# Altium schematic symbol library TI Microcontroller 32-Bit ARM.SchLib: 163 symbols (part 7 of 10)
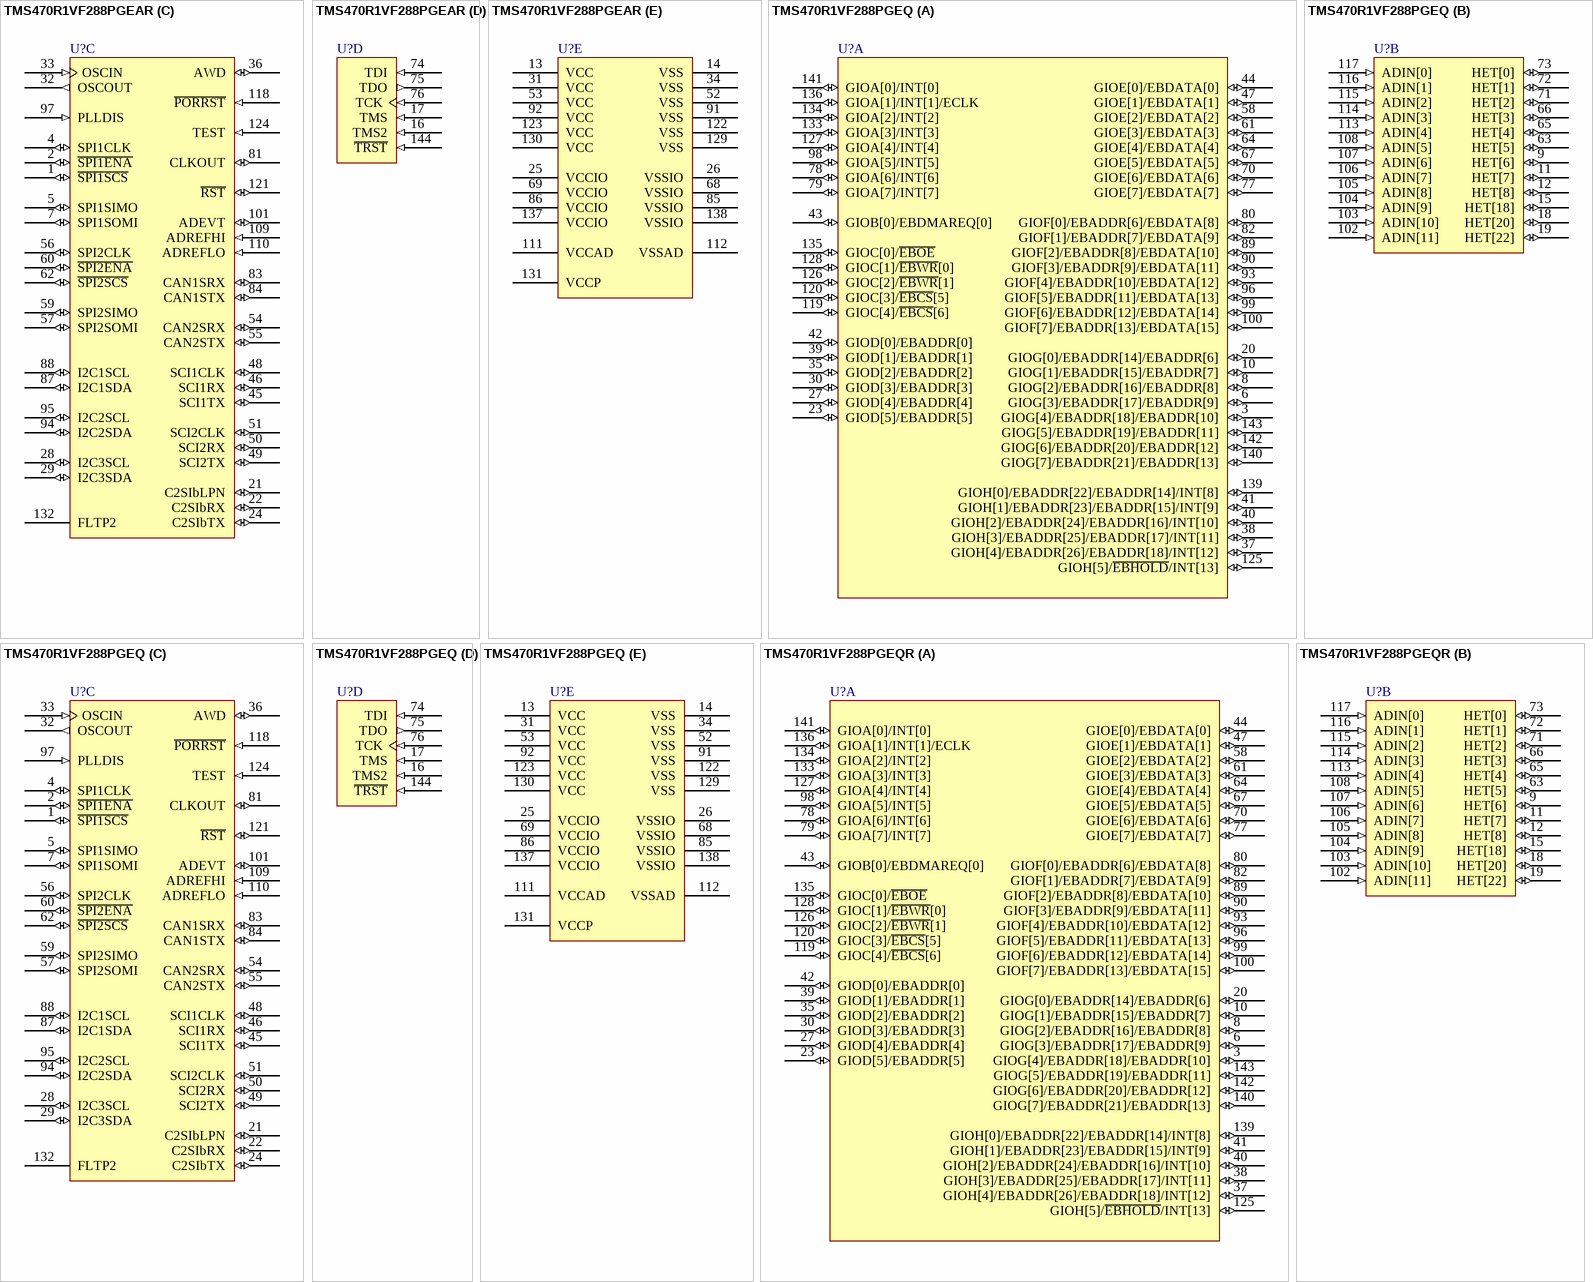
[diagram p58: symbols TMS470R1VF288PGEAR to TMS470R1VF288PGEQR]

## TMS470R1VF288PGEQ
designator U?
ARM7TDMI 16/32-Bit RISC Automotive MCU, 288KB Flash, 16KB RAM, 144-pin LQFP, -40ºC to 125ºC; Published: 30-Mar-2007; DatasheetVersion: Dec-2005; PackageVersion: Dec-1996; PackageReference: PGE144; Publisher: Altium Limited; PackageDescription: 144-Pin Thin Quad Flat Pack 0.5 mm Pitch; ComponentLink1Description: Manufacturer Link; ComponentLink1URL: http://www.ti.com/; ComponentLink2Description: Datasheet; ComponentLink2URL: http://focus.ti.com/lit/ds/symlink/tms470r1vf288.pdf
footprint PGE144_N (Thin QFP, 144-Leads, Body 20x20mm, Pitch 0.5mm, IPC Medium Density)
footprint PGE144_L (Thin QFP, 144-Leads, Body 20x20mm, Pitch 0.5mm, IPC High Density)
footprint PGE144_M (Thin QFP, 144-Leads, Body 20x20mm, Pitch 0.5mm, IPC Low Density)
part A pins: 3 GIOG[4]/EBADDR[18]/EBADDR[10] (io), 6 GIOG[3]/EBADDR[17]/EBADDR[9] (io), 8 GIOG[2]/EBADDR[16]/EBADDR[8] (io), 10 GIOG[1]/EBADDR[15]/EBADDR[7] (io), 20 GIOG[0]/EBADDR[14]/EBADDR[6] (io), 23 GIOD[5]/EBADDR[5] (io), 27 GIOD[4]/EBADDR[4] (io), 30 GIOD[3]/EBADDR[3] (io), 35 GIOD[2]/EBADDR[2] (io), 37 GIOH[4]/EBADDR[26]/EBADDR[18]/INT[12] (io), 38 GIOH[3]/EBADDR[25]/EBADDR[17]/INT[11] (io), 39 GIOD[1]/EBADDR[1] (io), 40 GIOH[2]/EBADDR[24]/EBADDR[16]/INT[10] (io), 41 GIOH[1]/EBADDR[23]/EBADDR[15]/INT[9] (io), 42 GIOD[0]/EBADDR[0] (io), 43 GIOB[0]/EBDMAREQ[0] (io), 44 GIOE[0]/EBDATA[0] (io), 47 GIOE[1]/EBDATA[1] (io), 58 GIOE[2]/EBDATA[2] (io), 61 GIOE[3]/EBDATA[3] (io), 64 GIOE[4]/EBDATA[4] (io), 67 GIOE[5]/EBDATA[5] (io), 70 GIOE[6]/EBDATA[6] (io), 77 GIOE[7]/EBDATA[7] (io), 78 GIOA[6]/INT[6] (io), 79 GIOA[7]/INT[7] (io), 80 GIOF[0]/EBADDR[6]/EBDATA[8] (io), 82 GIOF[1]/EBADDR[7]/EBDATA[9] (io), 89 GIOF[2]/EBADDR[8]/EBDATA[10] (io), 90 GIOF[3]/EBADDR[9]/EBDATA[11] (io), 93 GIOF[4]/EBADDR[10]/EBDATA[12] (io), 96 GIOF[5]/EBADDR[11]/EBDATA[13] (io), 98 GIOA[5]/INT[5] (io), 99 GIOF[6]/EBADDR[12]/EBDATA[14] (io), 100 GIOF[7]/EBADDR[13]/EBDATA[15] (io), 119 GIOC[4]/~{EBCS}[6] (io), 120 GIOC[3]/~{EBCS}[5] (io), 125 GIOH[5]/~{EBHOLD}/INT[13] (io), 126 GIOC[2]/~{EBWR}[1] (io), 127 GIOA[4]/INT[4] (io), 128 GIOC[1]/~{EBWR}[0] (io), 133 GIOA[3]/INT[3] (io), 134 GIOA[2]/INT[2] (io), 135 GIOC[0]/~{EBOE} (io), 136 GIOA[1]/INT[1]/ECLK (io), 139 GIOH[0]/EBADDR[22]/EBADDR[14]/INT[8] (io), 140 GIOG[7]/EBADDR[21]/EBADDR[13] (io), 141 GIOA[0]/INT[0] (io), 142 GIOG[6]/EBADDR[20]/EBADDR[12] (io), 143 GIOG[5]/EBADDR[19]/EBADDR[11] (io)
part B pins: 9 HET[6] (io), 11 HET[7] (io), 12 HET[8] (io), 15 HET[18] (io), 18 HET[20] (io), 19 HET[22] (io), 63 HET[5] (io), 65 HET[4] (io), 66 HET[3] (io), 71 HET[2] (io), 72 HET[1] (io), 73 HET[0] (io), 102 ADIN[11] (in), 103 ADIN[10] (in), 104 ADIN[9] (in), 105 ADIN[8] (in), 106 ADIN[7] (in), 107 ADIN[6] (in), 108 ADIN[5] (in), 113 ADIN[4] (in), 114 ADIN[3] (in), 115 ADIN[2] (in), 116 ADIN[1] (in), 117 ADIN[0] (in)
part C pins: 1 ~{SPI1SCS} (io), 2 ~{SPI1ENA} (io), 4 SPI1CLK (io), 5 SPI1SIMO (io), 7 SPI1SOMI (io), 21 C2SIbLPN (io), 22 C2SIbRX (io), 24 C2SIbTX (io), 28 I2C3SCL (io), 29 I2C3SDA (io), 32 OSCOUT (out), 33 OSCIN (in), 36 AWD (io), 45 SCI1TX (io), 46 SCI1RX (io), 48 SCI1CLK (io), 49 SCI2TX (io), 50 SCI2RX (io), 51 SCI2CLK (io), 54 CAN2SRX (io), 55 CAN2STX (io), 56 SPI2CLK (io), 57 SPI2SOMI (io), 59 SPI2SIMO (io), 60 ~{SPI2ENA} (io), 62 ~{SPI2SCS} (io), 81 CLKOUT (io), 83 CAN1SRX (io), 84 CAN1STX (io), 87 I2C1SDA (io), 88 I2C1SCL (io), 94 I2C2SDA (io), 95 I2C2SCL (io), 97 PLLDIS (in), 101 ADEVT (io), 109 ADREFHI (in), 110 ADREFLO (in), 118 ~{PORRST} (in), 121 ~{RST} (io), 124 TEST (in), 132 FLTP2
part D pins: 16 TMS2 (in), 17 TMS (in), 74 TDI (in), 75 TDO (out), 76 TCK (in), 144 ~{TRST} (in)
part E pins: 13 VCC (power), 14 VSS (power), 25 VCCIO (power), 26 VSSIO (power), 31 VCC (power), 34 VSS (power), 52 VSS (power), 53 VCC (power), 68 VSSIO (power), 69 VCCIO (power), 85 VSSIO (power), 86 VCCIO (power), 91 VSS (power), 92 VCC (power), 111 VCCAD (power), 112 VSSAD (power), 122 VSS (power), 123 VCC (power), 129 VSS (power), 130 VCC (power), 131 VCCP (power), 137 VCCIO (power), 138 VSSIO (power)

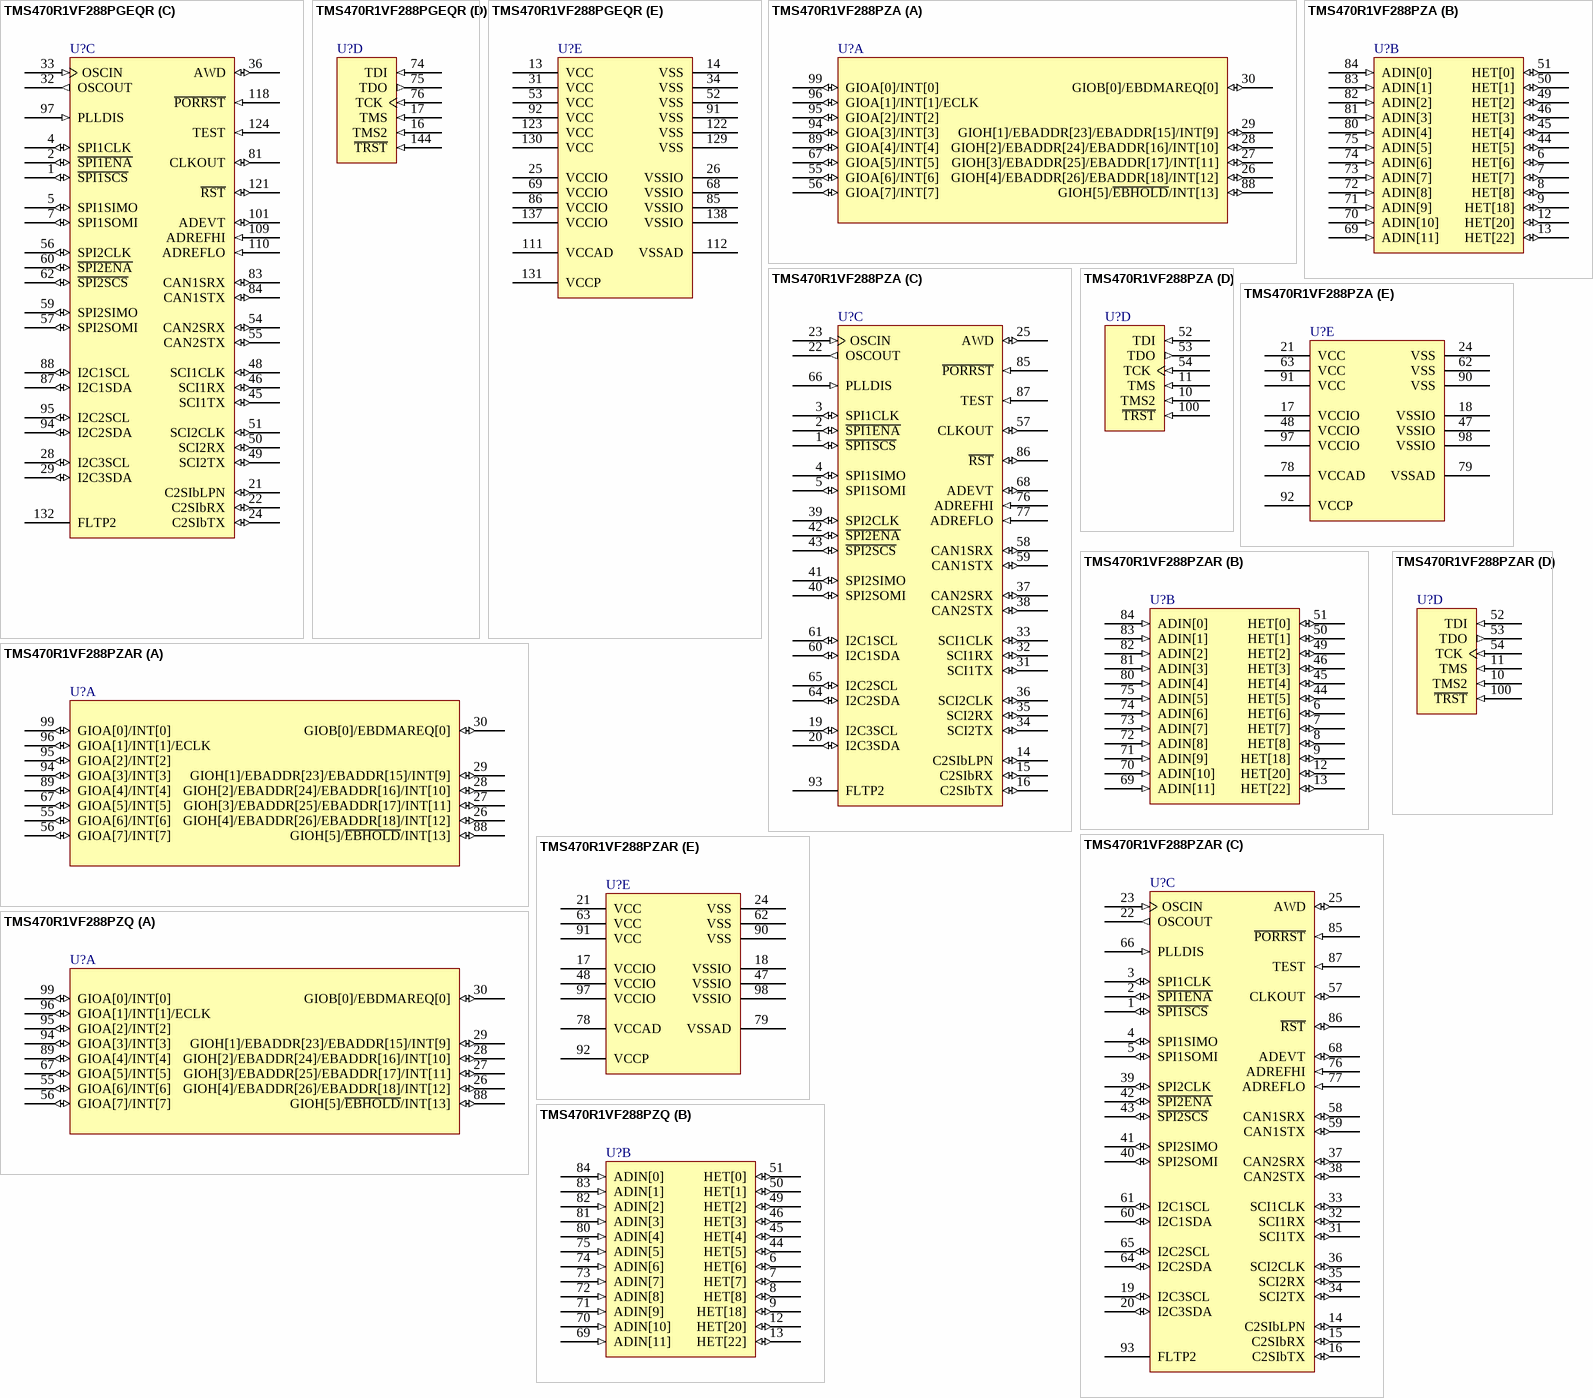
[diagram p33: symbols TMS470R1VF288PGEQR to TMS470R1VF288PZQ]

## TMS470R1VF288PGEQR
designator U?
ARM7TDMI 16/32-Bit RISC Automotive MCU, 288KB Flash, 16KB RAM, 144-pin LQFP, -40ºC to 125ºC; Published: 30-Mar-2007; DatasheetVersion: Dec-2005; PackageVersion: Dec-1996; PackageReference: PGE144; Publisher: Altium Limited; PackageDescription: 144-Pin Thin Quad Flat Pack 0.5 mm Pitch; ComponentLink1Description: Manufacturer Link; ComponentLink1URL: http://www.ti.com/; ComponentLink2Description: Datasheet; ComponentLink2URL: http://focus.ti.com/lit/ds/symlink/tms470r1vf288.pdf
footprint PGE144_N (Thin QFP, 144-Leads, Body 20x20mm, Pitch 0.5mm, IPC Medium Density)
footprint PGE144_L (Thin QFP, 144-Leads, Body 20x20mm, Pitch 0.5mm, IPC High Density)
footprint PGE144_M (Thin QFP, 144-Leads, Body 20x20mm, Pitch 0.5mm, IPC Low Density)
part A pins: 3 GIOG[4]/EBADDR[18]/EBADDR[10] (io), 6 GIOG[3]/EBADDR[17]/EBADDR[9] (io), 8 GIOG[2]/EBADDR[16]/EBADDR[8] (io), 10 GIOG[1]/EBADDR[15]/EBADDR[7] (io), 20 GIOG[0]/EBADDR[14]/EBADDR[6] (io), 23 GIOD[5]/EBADDR[5] (io), 27 GIOD[4]/EBADDR[4] (io), 30 GIOD[3]/EBADDR[3] (io), 35 GIOD[2]/EBADDR[2] (io), 37 GIOH[4]/EBADDR[26]/EBADDR[18]/INT[12] (io), 38 GIOH[3]/EBADDR[25]/EBADDR[17]/INT[11] (io), 39 GIOD[1]/EBADDR[1] (io), 40 GIOH[2]/EBADDR[24]/EBADDR[16]/INT[10] (io), 41 GIOH[1]/EBADDR[23]/EBADDR[15]/INT[9] (io), 42 GIOD[0]/EBADDR[0] (io), 43 GIOB[0]/EBDMAREQ[0] (io), 44 GIOE[0]/EBDATA[0] (io), 47 GIOE[1]/EBDATA[1] (io), 58 GIOE[2]/EBDATA[2] (io), 61 GIOE[3]/EBDATA[3] (io), 64 GIOE[4]/EBDATA[4] (io), 67 GIOE[5]/EBDATA[5] (io), 70 GIOE[6]/EBDATA[6] (io), 77 GIOE[7]/EBDATA[7] (io), 78 GIOA[6]/INT[6] (io), 79 GIOA[7]/INT[7] (io), 80 GIOF[0]/EBADDR[6]/EBDATA[8] (io), 82 GIOF[1]/EBADDR[7]/EBDATA[9] (io), 89 GIOF[2]/EBADDR[8]/EBDATA[10] (io), 90 GIOF[3]/EBADDR[9]/EBDATA[11] (io), 93 GIOF[4]/EBADDR[10]/EBDATA[12] (io), 96 GIOF[5]/EBADDR[11]/EBDATA[13] (io), 98 GIOA[5]/INT[5] (io), 99 GIOF[6]/EBADDR[12]/EBDATA[14] (io), 100 GIOF[7]/EBADDR[13]/EBDATA[15] (io), 119 GIOC[4]/~{EBCS}[6] (io), 120 GIOC[3]/~{EBCS}[5] (io), 125 GIOH[5]/~{EBHOLD}/INT[13] (io), 126 GIOC[2]/~{EBWR}[1] (io), 127 GIOA[4]/INT[4] (io), 128 GIOC[1]/~{EBWR}[0] (io), 133 GIOA[3]/INT[3] (io), 134 GIOA[2]/INT[2] (io), 135 GIOC[0]/~{EBOE} (io), 136 GIOA[1]/INT[1]/ECLK (io), 139 GIOH[0]/EBADDR[22]/EBADDR[14]/INT[8] (io), 140 GIOG[7]/EBADDR[21]/EBADDR[13] (io), 141 GIOA[0]/INT[0] (io), 142 GIOG[6]/EBADDR[20]/EBADDR[12] (io), 143 GIOG[5]/EBADDR[19]/EBADDR[11] (io)
part B pins: 9 HET[6] (io), 11 HET[7] (io), 12 HET[8] (io), 15 HET[18] (io), 18 HET[20] (io), 19 HET[22] (io), 63 HET[5] (io), 65 HET[4] (io), 66 HET[3] (io), 71 HET[2] (io), 72 HET[1] (io), 73 HET[0] (io), 102 ADIN[11] (in), 103 ADIN[10] (in), 104 ADIN[9] (in), 105 ADIN[8] (in), 106 ADIN[7] (in), 107 ADIN[6] (in), 108 ADIN[5] (in), 113 ADIN[4] (in), 114 ADIN[3] (in), 115 ADIN[2] (in), 116 ADIN[1] (in), 117 ADIN[0] (in)
part C pins: 1 ~{SPI1SCS} (io), 2 ~{SPI1ENA} (io), 4 SPI1CLK (io), 5 SPI1SIMO (io), 7 SPI1SOMI (io), 21 C2SIbLPN (io), 22 C2SIbRX (io), 24 C2SIbTX (io), 28 I2C3SCL (io), 29 I2C3SDA (io), 32 OSCOUT (out), 33 OSCIN (in), 36 AWD (io), 45 SCI1TX (io), 46 SCI1RX (io), 48 SCI1CLK (io), 49 SCI2TX (io), 50 SCI2RX (io), 51 SCI2CLK (io), 54 CAN2SRX (io), 55 CAN2STX (io), 56 SPI2CLK (io), 57 SPI2SOMI (io), 59 SPI2SIMO (io), 60 ~{SPI2ENA} (io), 62 ~{SPI2SCS} (io), 81 CLKOUT (io), 83 CAN1SRX (io), 84 CAN1STX (io), 87 I2C1SDA (io), 88 I2C1SCL (io), 94 I2C2SDA (io), 95 I2C2SCL (io), 97 PLLDIS (in), 101 ADEVT (io), 109 ADREFHI (in), 110 ADREFLO (in), 118 ~{PORRST} (in), 121 ~{RST} (io), 124 TEST (in), 132 FLTP2
part D pins: 16 TMS2 (in), 17 TMS (in), 74 TDI (in), 75 TDO (out), 76 TCK (in), 144 ~{TRST} (in)
part E pins: 13 VCC (power), 14 VSS (power), 25 VCCIO (power), 26 VSSIO (power), 31 VCC (power), 34 VSS (power), 52 VSS (power), 53 VCC (power), 68 VSSIO (power), 69 VCCIO (power), 85 VSSIO (power), 86 VCCIO (power), 91 VSS (power), 92 VCC (power), 111 VCCAD (power), 112 VSSAD (power), 122 VSS (power), 123 VCC (power), 129 VSS (power), 130 VCC (power), 131 VCCP (power), 137 VCCIO (power), 138 VSSIO (power)

## TMS470R1VF288PZA
designator U?
ARM7TDMI 16/32-Bit RISC Automotive MCU, 288KB Flash, 16KB RAM, 100-pin LQFP, -40ºC to 85ºC; Published: 30-Mar-2007; DatasheetVersion: Dec-2005; PackageVersion: Dec-1996; PackageReference: PZ100; Publisher: Altium Limited; PackageDescription: 100-Pin Thin Quad Flat Pack 0.5 mm Pitch; ComponentLink1Description: Manufacturer Link; ComponentLink1URL: http://www.ti.com/; ComponentLink2Description: Datasheet; ComponentLink2URL: http://focus.ti.com/lit/ds/symlink/tms470r1vf288.pdf
footprint PZ100_N (Thin QFP, 100-Leads, Body 14x14mm, Pitch 0.5mm, IPC Medium Density)
footprint PZ100_L (Thin QFP, 100-Leads, Body 14x14mm, Pitch 0.5mm, IPC High Density)
footprint PZ100_M (Thin QFP, 100-Leads, Body 14x14mm, Pitch 0.5mm, IPC Low Density)
part A pins: 26 GIOH[4]/EBADDR[26]/EBADDR[18]/INT[12] (io), 27 GIOH[3]/EBADDR[25]/EBADDR[17]/INT[11] (io), 28 GIOH[2]/EBADDR[24]/EBADDR[16]/INT[10] (io), 29 GIOH[1]/EBADDR[23]/EBADDR[15]/INT[9] (io), 30 GIOB[0]/EBDMAREQ[0] (io), 55 GIOA[6]/INT[6] (io), 56 GIOA[7]/INT[7] (io), 67 GIOA[5]/INT[5] (io), 88 GIOH[5]/~{EBHOLD}/INT[13] (io), 89 GIOA[4]/INT[4] (io), 94 GIOA[3]/INT[3] (io), 95 GIOA[2]/INT[2] (io), 96 GIOA[1]/INT[1]/ECLK (io), 99 GIOA[0]/INT[0] (io)
part B pins: 6 HET[6] (io), 7 HET[7] (io), 8 HET[8] (io), 9 HET[18] (io), 12 HET[20] (io), 13 HET[22] (io), 44 HET[5] (io), 45 HET[4] (io), 46 HET[3] (io), 49 HET[2] (io), 50 HET[1] (io), 51 HET[0] (io), 69 ADIN[11] (in), 70 ADIN[10] (in), 71 ADIN[9] (in), 72 ADIN[8] (in), 73 ADIN[7] (in), 74 ADIN[6] (in), 75 ADIN[5] (in), 80 ADIN[4] (in), 81 ADIN[3] (in), 82 ADIN[2] (in), 83 ADIN[1] (in), 84 ADIN[0] (in)
part C pins: 1 ~{SPI1SCS} (io), 2 ~{SPI1ENA} (io), 3 SPI1CLK (io), 4 SPI1SIMO (io), 5 SPI1SOMI (io), 14 C2SIbLPN (io), 15 C2SIbRX (io), 16 C2SIbTX (io), 19 I2C3SCL (io), 20 I2C3SDA (io), 22 OSCOUT (out), 23 OSCIN (in), 25 AWD (io), 31 SCI1TX (io), 32 SCI1RX (io), 33 SCI1CLK (io), 34 SCI2TX (io), 35 SCI2RX (io), 36 SCI2CLK (io), 37 CAN2SRX (io), 38 CAN2STX (io), 39 SPI2CLK (io), 40 SPI2SOMI (io), 41 SPI2SIMO (io), 42 ~{SPI2ENA} (io), 43 ~{SPI2SCS} (io), 57 CLKOUT (io), 58 CAN1SRX (io), 59 CAN1STX (io), 60 I2C1SDA (io), 61 I2C1SCL (io), 64 I2C2SDA (io), 65 I2C2SCL (io), 66 PLLDIS (in), 68 ADEVT (io), 76 ADREFHI (in), 77 ADREFLO (in), 85 ~{PORRST} (in), 86 ~{RST} (io), 87 TEST (in), 93 FLTP2
part D pins: 10 TMS2 (in), 11 TMS (in), 52 TDI (in), 53 TDO (out), 54 TCK (in), 100 ~{TRST} (in)
part E pins: 17 VCCIO (power), 18 VSSIO (power), 21 VCC (power), 24 VSS (power), 47 VSSIO (power), 48 VCCIO (power), 62 VSS (power), 63 VCC (power), 78 VCCAD (power), 79 VSSAD (power), 90 VSS (power), 91 VCC (power), 92 VCCP (power), 97 VCCIO (power), 98 VSSIO (power)

## TMS470R1VF288PZAR
designator U?
ARM7TDMI 16/32-Bit RISC Automotive MCU, 288KB Flash, 16KB RAM, 100-pin LQFP, -40ºC to 85ºC; Published: 30-Mar-2007; DatasheetVersion: Dec-2005; PackageVersion: Dec-1996; PackageReference: PZ100; Publisher: Altium Limited; PackageDescription: 100-Pin Thin Quad Flat Pack 0.5 mm Pitch; ComponentLink1Description: Manufacturer Link; ComponentLink1URL: http://www.ti.com/; ComponentLink2Description: Datasheet; ComponentLink2URL: http://focus.ti.com/lit/ds/symlink/tms470r1vf288.pdf
footprint PZ100_N (Thin QFP, 100-Leads, Body 14x14mm, Pitch 0.5mm, IPC Medium Density)
footprint PZ100_L (Thin QFP, 100-Leads, Body 14x14mm, Pitch 0.5mm, IPC High Density)
footprint PZ100_M (Thin QFP, 100-Leads, Body 14x14mm, Pitch 0.5mm, IPC Low Density)
part A pins: 26 GIOH[4]/EBADDR[26]/EBADDR[18]/INT[12] (io), 27 GIOH[3]/EBADDR[25]/EBADDR[17]/INT[11] (io), 28 GIOH[2]/EBADDR[24]/EBADDR[16]/INT[10] (io), 29 GIOH[1]/EBADDR[23]/EBADDR[15]/INT[9] (io), 30 GIOB[0]/EBDMAREQ[0] (io), 55 GIOA[6]/INT[6] (io), 56 GIOA[7]/INT[7] (io), 67 GIOA[5]/INT[5] (io), 88 GIOH[5]/~{EBHOLD}/INT[13] (io), 89 GIOA[4]/INT[4] (io), 94 GIOA[3]/INT[3] (io), 95 GIOA[2]/INT[2] (io), 96 GIOA[1]/INT[1]/ECLK (io), 99 GIOA[0]/INT[0] (io)
part B pins: 6 HET[6] (io), 7 HET[7] (io), 8 HET[8] (io), 9 HET[18] (io), 12 HET[20] (io), 13 HET[22] (io), 44 HET[5] (io), 45 HET[4] (io), 46 HET[3] (io), 49 HET[2] (io), 50 HET[1] (io), 51 HET[0] (io), 69 ADIN[11] (in), 70 ADIN[10] (in), 71 ADIN[9] (in), 72 ADIN[8] (in), 73 ADIN[7] (in), 74 ADIN[6] (in), 75 ADIN[5] (in), 80 ADIN[4] (in), 81 ADIN[3] (in), 82 ADIN[2] (in), 83 ADIN[1] (in), 84 ADIN[0] (in)
part C pins: 1 ~{SPI1SCS} (io), 2 ~{SPI1ENA} (io), 3 SPI1CLK (io), 4 SPI1SIMO (io), 5 SPI1SOMI (io), 14 C2SIbLPN (io), 15 C2SIbRX (io), 16 C2SIbTX (io), 19 I2C3SCL (io), 20 I2C3SDA (io), 22 OSCOUT (out), 23 OSCIN (in), 25 AWD (io), 31 SCI1TX (io), 32 SCI1RX (io), 33 SCI1CLK (io), 34 SCI2TX (io), 35 SCI2RX (io), 36 SCI2CLK (io), 37 CAN2SRX (io), 38 CAN2STX (io), 39 SPI2CLK (io), 40 SPI2SOMI (io), 41 SPI2SIMO (io), 42 ~{SPI2ENA} (io), 43 ~{SPI2SCS} (io), 57 CLKOUT (io), 58 CAN1SRX (io), 59 CAN1STX (io), 60 I2C1SDA (io), 61 I2C1SCL (io), 64 I2C2SDA (io), 65 I2C2SCL (io), 66 PLLDIS (in), 68 ADEVT (io), 76 ADREFHI (in), 77 ADREFLO (in), 85 ~{PORRST} (in), 86 ~{RST} (io), 87 TEST (in), 93 FLTP2
part D pins: 10 TMS2 (in), 11 TMS (in), 52 TDI (in), 53 TDO (out), 54 TCK (in), 100 ~{TRST} (in)
part E pins: 17 VCCIO (power), 18 VSSIO (power), 21 VCC (power), 24 VSS (power), 47 VSSIO (power), 48 VCCIO (power), 62 VSS (power), 63 VCC (power), 78 VCCAD (power), 79 VSSAD (power), 90 VSS (power), 91 VCC (power), 92 VCCP (power), 97 VCCIO (power), 98 VSSIO (power)

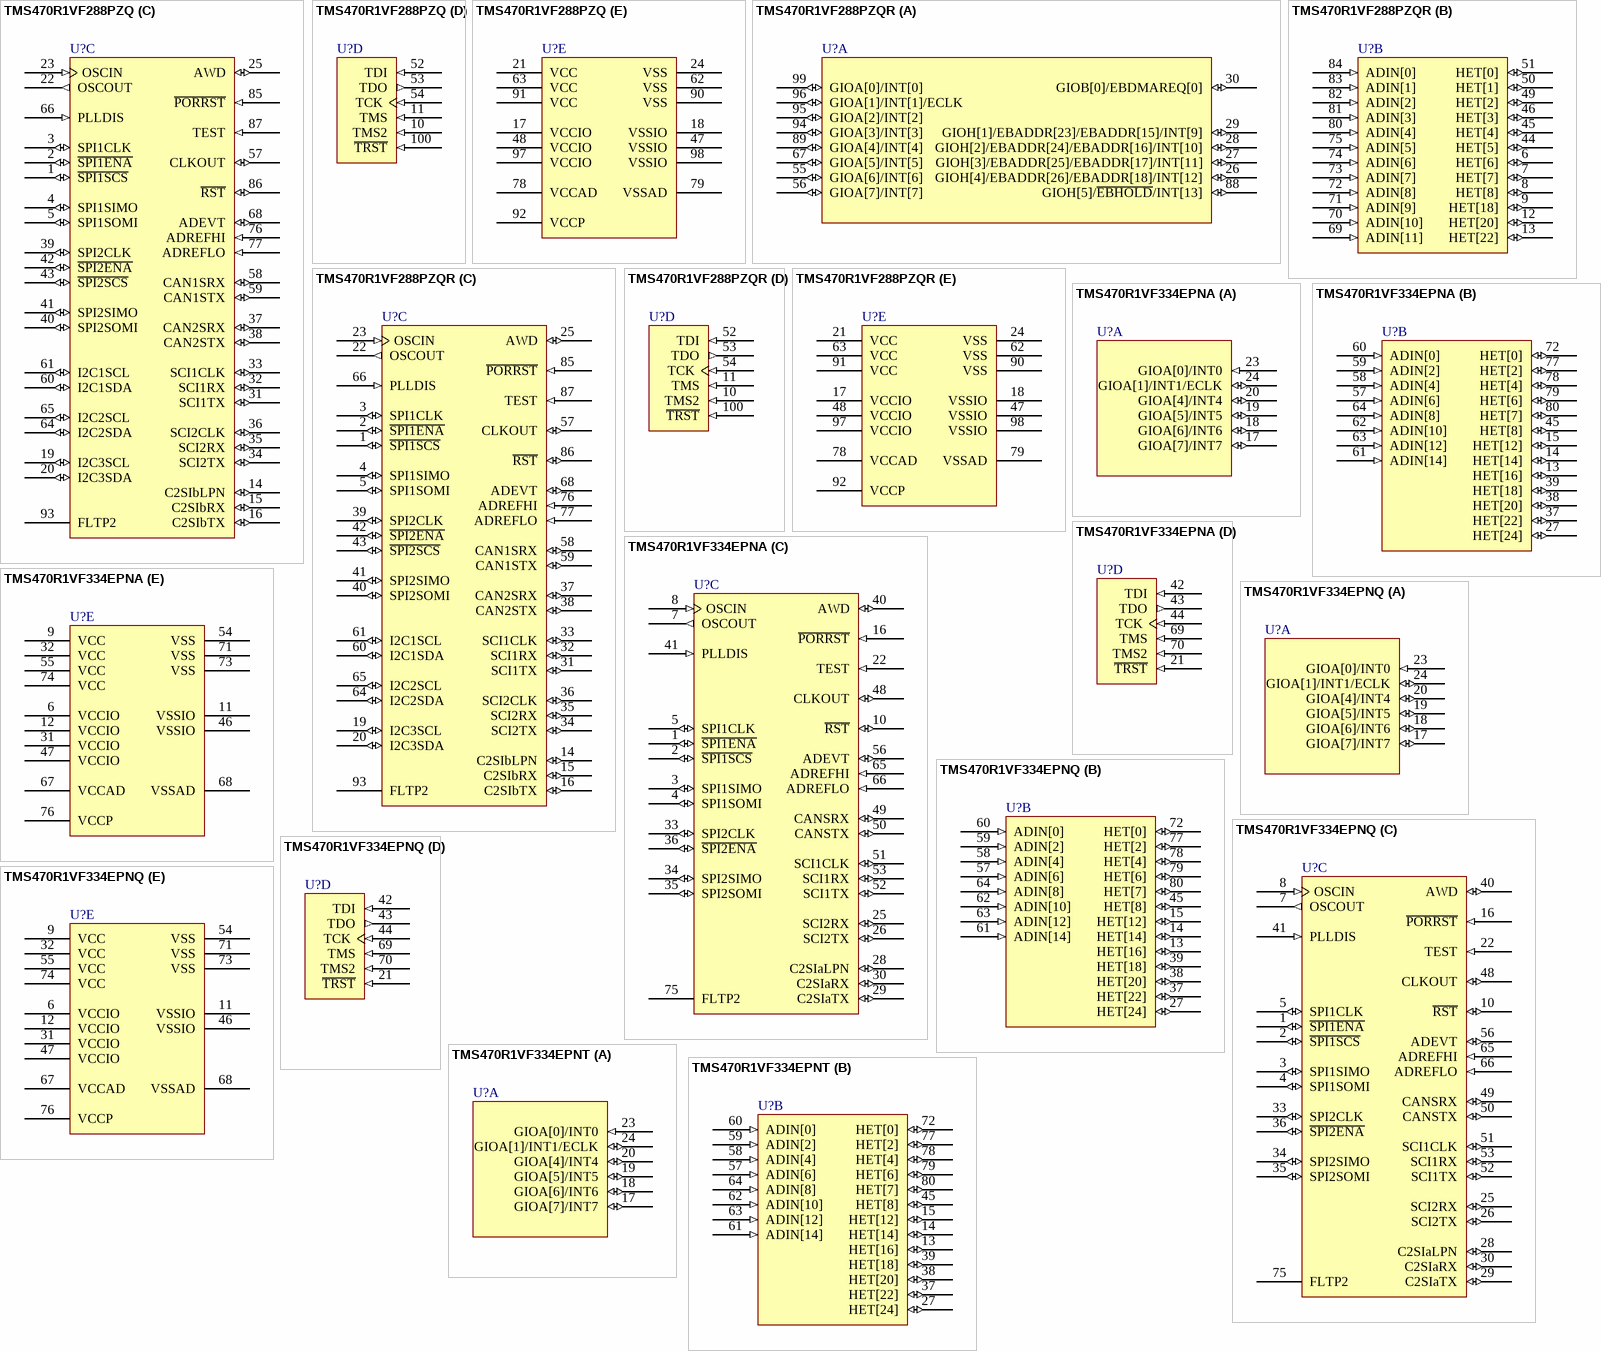
[diagram p34: symbols TMS470R1VF288PZQ to TMS470R1VF334EPNT]

## TMS470R1VF288PZQ
designator U?
ARM7TDMI 16/32-Bit RISC Automotive MCU, 288KB Flash, 16KB RAM, 100-pin LQFP, -40ºC to 125ºC; Published: 30-Mar-2007; DatasheetVersion: Dec-2005; PackageVersion: Dec-1996; PackageReference: PZ100; Publisher: Altium Limited; PackageDescription: 100-Pin Thin Quad Flat Pack 0.5 mm Pitch; ComponentLink1Description: Manufacturer Link; ComponentLink1URL: http://www.ti.com/; ComponentLink2Description: Datasheet; ComponentLink2URL: http://focus.ti.com/lit/ds/symlink/tms470r1vf288.pdf
footprint PZ100_N (Thin QFP, 100-Leads, Body 14x14mm, Pitch 0.5mm, IPC Medium Density)
footprint PZ100_L (Thin QFP, 100-Leads, Body 14x14mm, Pitch 0.5mm, IPC High Density)
footprint PZ100_M (Thin QFP, 100-Leads, Body 14x14mm, Pitch 0.5mm, IPC Low Density)
part A pins: 26 GIOH[4]/EBADDR[26]/EBADDR[18]/INT[12] (io), 27 GIOH[3]/EBADDR[25]/EBADDR[17]/INT[11] (io), 28 GIOH[2]/EBADDR[24]/EBADDR[16]/INT[10] (io), 29 GIOH[1]/EBADDR[23]/EBADDR[15]/INT[9] (io), 30 GIOB[0]/EBDMAREQ[0] (io), 55 GIOA[6]/INT[6] (io), 56 GIOA[7]/INT[7] (io), 67 GIOA[5]/INT[5] (io), 88 GIOH[5]/~{EBHOLD}/INT[13] (io), 89 GIOA[4]/INT[4] (io), 94 GIOA[3]/INT[3] (io), 95 GIOA[2]/INT[2] (io), 96 GIOA[1]/INT[1]/ECLK (io), 99 GIOA[0]/INT[0] (io)
part B pins: 6 HET[6] (io), 7 HET[7] (io), 8 HET[8] (io), 9 HET[18] (io), 12 HET[20] (io), 13 HET[22] (io), 44 HET[5] (io), 45 HET[4] (io), 46 HET[3] (io), 49 HET[2] (io), 50 HET[1] (io), 51 HET[0] (io), 69 ADIN[11] (in), 70 ADIN[10] (in), 71 ADIN[9] (in), 72 ADIN[8] (in), 73 ADIN[7] (in), 74 ADIN[6] (in), 75 ADIN[5] (in), 80 ADIN[4] (in), 81 ADIN[3] (in), 82 ADIN[2] (in), 83 ADIN[1] (in), 84 ADIN[0] (in)
part C pins: 1 ~{SPI1SCS} (io), 2 ~{SPI1ENA} (io), 3 SPI1CLK (io), 4 SPI1SIMO (io), 5 SPI1SOMI (io), 14 C2SIbLPN (io), 15 C2SIbRX (io), 16 C2SIbTX (io), 19 I2C3SCL (io), 20 I2C3SDA (io), 22 OSCOUT (out), 23 OSCIN (in), 25 AWD (io), 31 SCI1TX (io), 32 SCI1RX (io), 33 SCI1CLK (io), 34 SCI2TX (io), 35 SCI2RX (io), 36 SCI2CLK (io), 37 CAN2SRX (io), 38 CAN2STX (io), 39 SPI2CLK (io), 40 SPI2SOMI (io), 41 SPI2SIMO (io), 42 ~{SPI2ENA} (io), 43 ~{SPI2SCS} (io), 57 CLKOUT (io), 58 CAN1SRX (io), 59 CAN1STX (io), 60 I2C1SDA (io), 61 I2C1SCL (io), 64 I2C2SDA (io), 65 I2C2SCL (io), 66 PLLDIS (in), 68 ADEVT (io), 76 ADREFHI (in), 77 ADREFLO (in), 85 ~{PORRST} (in), 86 ~{RST} (io), 87 TEST (in), 93 FLTP2
part D pins: 10 TMS2 (in), 11 TMS (in), 52 TDI (in), 53 TDO (out), 54 TCK (in), 100 ~{TRST} (in)
part E pins: 17 VCCIO (power), 18 VSSIO (power), 21 VCC (power), 24 VSS (power), 47 VSSIO (power), 48 VCCIO (power), 62 VSS (power), 63 VCC (power), 78 VCCAD (power), 79 VSSAD (power), 90 VSS (power), 91 VCC (power), 92 VCCP (power), 97 VCCIO (power), 98 VSSIO (power)

## TMS470R1VF288PZQR
designator U?
ARM7TDMI 16/32-Bit RISC Automotive MCU, 288KB Flash, 16KB RAM, 100-pin LQFP, -40ºC to 125ºC; Published: 30-Mar-2007; DatasheetVersion: Dec-2005; PackageVersion: Dec-1996; PackageReference: PZ100; Publisher: Altium Limited; PackageDescription: 100-Pin Thin Quad Flat Pack 0.5 mm Pitch; ComponentLink1Description: Manufacturer Link; ComponentLink1URL: http://www.ti.com/; ComponentLink2Description: Datasheet; ComponentLink2URL: http://focus.ti.com/lit/ds/symlink/tms470r1vf288.pdf
footprint PZ100_N (Thin QFP, 100-Leads, Body 14x14mm, Pitch 0.5mm, IPC Medium Density)
footprint PZ100_L (Thin QFP, 100-Leads, Body 14x14mm, Pitch 0.5mm, IPC High Density)
footprint PZ100_M (Thin QFP, 100-Leads, Body 14x14mm, Pitch 0.5mm, IPC Low Density)
part A pins: 26 GIOH[4]/EBADDR[26]/EBADDR[18]/INT[12] (io), 27 GIOH[3]/EBADDR[25]/EBADDR[17]/INT[11] (io), 28 GIOH[2]/EBADDR[24]/EBADDR[16]/INT[10] (io), 29 GIOH[1]/EBADDR[23]/EBADDR[15]/INT[9] (io), 30 GIOB[0]/EBDMAREQ[0] (io), 55 GIOA[6]/INT[6] (io), 56 GIOA[7]/INT[7] (io), 67 GIOA[5]/INT[5] (io), 88 GIOH[5]/~{EBHOLD}/INT[13] (io), 89 GIOA[4]/INT[4] (io), 94 GIOA[3]/INT[3] (io), 95 GIOA[2]/INT[2] (io), 96 GIOA[1]/INT[1]/ECLK (io), 99 GIOA[0]/INT[0] (io)
part B pins: 6 HET[6] (io), 7 HET[7] (io), 8 HET[8] (io), 9 HET[18] (io), 12 HET[20] (io), 13 HET[22] (io), 44 HET[5] (io), 45 HET[4] (io), 46 HET[3] (io), 49 HET[2] (io), 50 HET[1] (io), 51 HET[0] (io), 69 ADIN[11] (in), 70 ADIN[10] (in), 71 ADIN[9] (in), 72 ADIN[8] (in), 73 ADIN[7] (in), 74 ADIN[6] (in), 75 ADIN[5] (in), 80 ADIN[4] (in), 81 ADIN[3] (in), 82 ADIN[2] (in), 83 ADIN[1] (in), 84 ADIN[0] (in)
part C pins: 1 ~{SPI1SCS} (io), 2 ~{SPI1ENA} (io), 3 SPI1CLK (io), 4 SPI1SIMO (io), 5 SPI1SOMI (io), 14 C2SIbLPN (io), 15 C2SIbRX (io), 16 C2SIbTX (io), 19 I2C3SCL (io), 20 I2C3SDA (io), 22 OSCOUT (out), 23 OSCIN (in), 25 AWD (io), 31 SCI1TX (io), 32 SCI1RX (io), 33 SCI1CLK (io), 34 SCI2TX (io), 35 SCI2RX (io), 36 SCI2CLK (io), 37 CAN2SRX (io), 38 CAN2STX (io), 39 SPI2CLK (io), 40 SPI2SOMI (io), 41 SPI2SIMO (io), 42 ~{SPI2ENA} (io), 43 ~{SPI2SCS} (io), 57 CLKOUT (io), 58 CAN1SRX (io), 59 CAN1STX (io), 60 I2C1SDA (io), 61 I2C1SCL (io), 64 I2C2SDA (io), 65 I2C2SCL (io), 66 PLLDIS (in), 68 ADEVT (io), 76 ADREFHI (in), 77 ADREFLO (in), 85 ~{PORRST} (in), 86 ~{RST} (io), 87 TEST (in), 93 FLTP2
part D pins: 10 TMS2 (in), 11 TMS (in), 52 TDI (in), 53 TDO (out), 54 TCK (in), 100 ~{TRST} (in)
part E pins: 17 VCCIO (power), 18 VSSIO (power), 21 VCC (power), 24 VSS (power), 47 VSSIO (power), 48 VCCIO (power), 62 VSS (power), 63 VCC (power), 78 VCCAD (power), 79 VSSAD (power), 90 VSS (power), 91 VCC (power), 92 VCCP (power), 97 VCCIO (power), 98 VSSIO (power)

## TMS470R1VF334EPNA
designator U?
ARM7TDMI 16/32-Bit RISC Automotive MCU, 64KB Flash, 4KB RAM, 80-pin LQFP, -40ºC to 85ºC; Published: 30-Mar-2007; DatasheetVersion: Aug-2006; PackageVersion: Dec-1996; PackageReference: PN080; Publisher: Altium Limited; PackageDescription: 80-Pin Thin Quad Flat Pack 0.5 mm Pitch; ComponentLink1Description: Manufacturer Link; ComponentLink1URL: http://www.ti.com/; ComponentLink2Description: Datasheet; ComponentLink2URL: http://focus.ti.com/lit/ds/symlink/tms470r1vf334a.pdf
footprint PN080_N (Thin QFP, 80-Leads, Body 12x12mm, Pitch 0.5mm, IPC Medium Density)
footprint PN080_L (Thin QFP, 80-Leads, Body 12x12mm, Pitch 0.5mm, IPC High Density)
footprint PN080_M (Thin QFP, 80-Leads, Body 12x12mm, Pitch 0.5mm, IPC Low Density)
part A pins: 17 GIOA[7]/INT7 (io), 18 GIOA[6]/INT6 (io), 19 GIOA[5]/INT5 (io), 20 GIOA[4]/INT4 (io), 23 GIOA[0]/INT0 (in) "GIOA[0]/INT0 (pin 23) is an input-only GIO pin.", 24 GIOA[1]/INT1/ECLK (io)
part B pins: 13 HET[16] (io), 14 HET[14] (io), 15 HET[12] (io), 27 HET[24] (io), 37 HET[22] (io), 38 HET[20] (io), 39 HET[18] (io), 45 HET[8] (io), 57 ADIN[6] (in), 58 ADIN[4] (in), 59 ADIN[2] (in), 60 ADIN[0] (in), 61 ADIN[14] (in), 62 ADIN[10] (in), 63 ADIN[12] (in), 64 ADIN[8] (in), 72 HET[0] (io), 77 HET[2] (io), 78 HET[4] (io), 79 HET[6] (io), 80 HET[7] (io)
part C pins: 1 ~{SPI1ENA} (io), 2 ~{SPI1SCS} (io), 3 SPI1SIMO (io), 4 SPI1SOMI (io), 5 SPI1CLK (io), 7 OSCOUT (out), 8 OSCIN (in), 10 ~{RST} (io), 16 ~{PORRST} (in), 22 TEST (in), 25 SCI2RX (io), 26 SCI2TX (io), 28 C2SIaLPN (io), 29 C2SIaTX (io), 30 C2SIaRX (io), 33 SPI2CLK (io), 34 SPI2SIMO (io), 35 SPI2SOMI (io), 36 ~{SPI2ENA} (io), 40 AWD (io), 41 PLLDIS (in), 48 CLKOUT (io), 49 CANSRX (io), 50 CANSTX (io), 51 SCI1CLK (io), 52 SCI1TX (io), 53 SCI1RX (io), 56 ADEVT (io), 65 ADREFHI (in), 66 ADREFLO (in), 75 FLTP2
part D pins: 21 ~{TRST} (in), 42 TDI (in), 43 TDO (out), 44 TCK (in), 69 TMS (in), 70 TMS2 (in)
part E pins: 6 VCCIO (power), 9 VCC (power), 11 VSSIO (power), 12 VCCIO (power), 31 VCCIO (power), 32 VCC (power), 46 VSSIO (power), 47 VCCIO (power), 54 VSS (power), 55 VCC (power), 67 VCCAD (power), 68 VSSAD (power), 71 VSS (power), 73 VSS (power), 74 VCC (power), 76 VCCP (power)

## TMS470R1VF334EPNQ
designator U?
ARM7TDMI 16/32-Bit RISC Automotive MCU, 64KB Flash, 4KB RAM, 80-pin LQFP, -40ºC to 125ºC; Published: 30-Mar-2007; DatasheetVersion: Aug-2006; PackageVersion: Dec-1996; PackageReference: PN080; Publisher: Altium Limited; PackageDescription: 80-Pin Thin Quad Flat Pack 0.5 mm Pitch; ComponentLink1Description: Manufacturer Link; ComponentLink1URL: http://www.ti.com/; ComponentLink2Description: Datasheet; ComponentLink2URL: http://focus.ti.com/lit/ds/symlink/tms470r1vf334a.pdf
footprint PN080_N (Thin QFP, 80-Leads, Body 12x12mm, Pitch 0.5mm, IPC Medium Density)
footprint PN080_L (Thin QFP, 80-Leads, Body 12x12mm, Pitch 0.5mm, IPC High Density)
footprint PN080_M (Thin QFP, 80-Leads, Body 12x12mm, Pitch 0.5mm, IPC Low Density)
part A pins: 17 GIOA[7]/INT7 (io), 18 GIOA[6]/INT6 (io), 19 GIOA[5]/INT5 (io), 20 GIOA[4]/INT4 (io), 23 GIOA[0]/INT0 (in) "GIOA[0]/INT0 (pin 23) is an input-only GIO pin.", 24 GIOA[1]/INT1/ECLK (io)
part B pins: 13 HET[16] (io), 14 HET[14] (io), 15 HET[12] (io), 27 HET[24] (io), 37 HET[22] (io), 38 HET[20] (io), 39 HET[18] (io), 45 HET[8] (io), 57 ADIN[6] (in), 58 ADIN[4] (in), 59 ADIN[2] (in), 60 ADIN[0] (in), 61 ADIN[14] (in), 62 ADIN[10] (in), 63 ADIN[12] (in), 64 ADIN[8] (in), 72 HET[0] (io), 77 HET[2] (io), 78 HET[4] (io), 79 HET[6] (io), 80 HET[7] (io)
part C pins: 1 ~{SPI1ENA} (io), 2 ~{SPI1SCS} (io), 3 SPI1SIMO (io), 4 SPI1SOMI (io), 5 SPI1CLK (io), 7 OSCOUT (out), 8 OSCIN (in), 10 ~{RST} (io), 16 ~{PORRST} (in), 22 TEST (in), 25 SCI2RX (io), 26 SCI2TX (io), 28 C2SIaLPN (io), 29 C2SIaTX (io), 30 C2SIaRX (io), 33 SPI2CLK (io), 34 SPI2SIMO (io), 35 SPI2SOMI (io), 36 ~{SPI2ENA} (io), 40 AWD (io), 41 PLLDIS (in), 48 CLKOUT (io), 49 CANSRX (io), 50 CANSTX (io), 51 SCI1CLK (io), 52 SCI1TX (io), 53 SCI1RX (io), 56 ADEVT (io), 65 ADREFHI (in), 66 ADREFLO (in), 75 FLTP2
part D pins: 21 ~{TRST} (in), 42 TDI (in), 43 TDO (out), 44 TCK (in), 69 TMS (in), 70 TMS2 (in)
part E pins: 6 VCCIO (power), 9 VCC (power), 11 VSSIO (power), 12 VCCIO (power), 31 VCCIO (power), 32 VCC (power), 46 VSSIO (power), 47 VCCIO (power), 54 VSS (power), 55 VCC (power), 67 VCCAD (power), 68 VSSAD (power), 71 VSS (power), 73 VSS (power), 74 VCC (power), 76 VCCP (power)

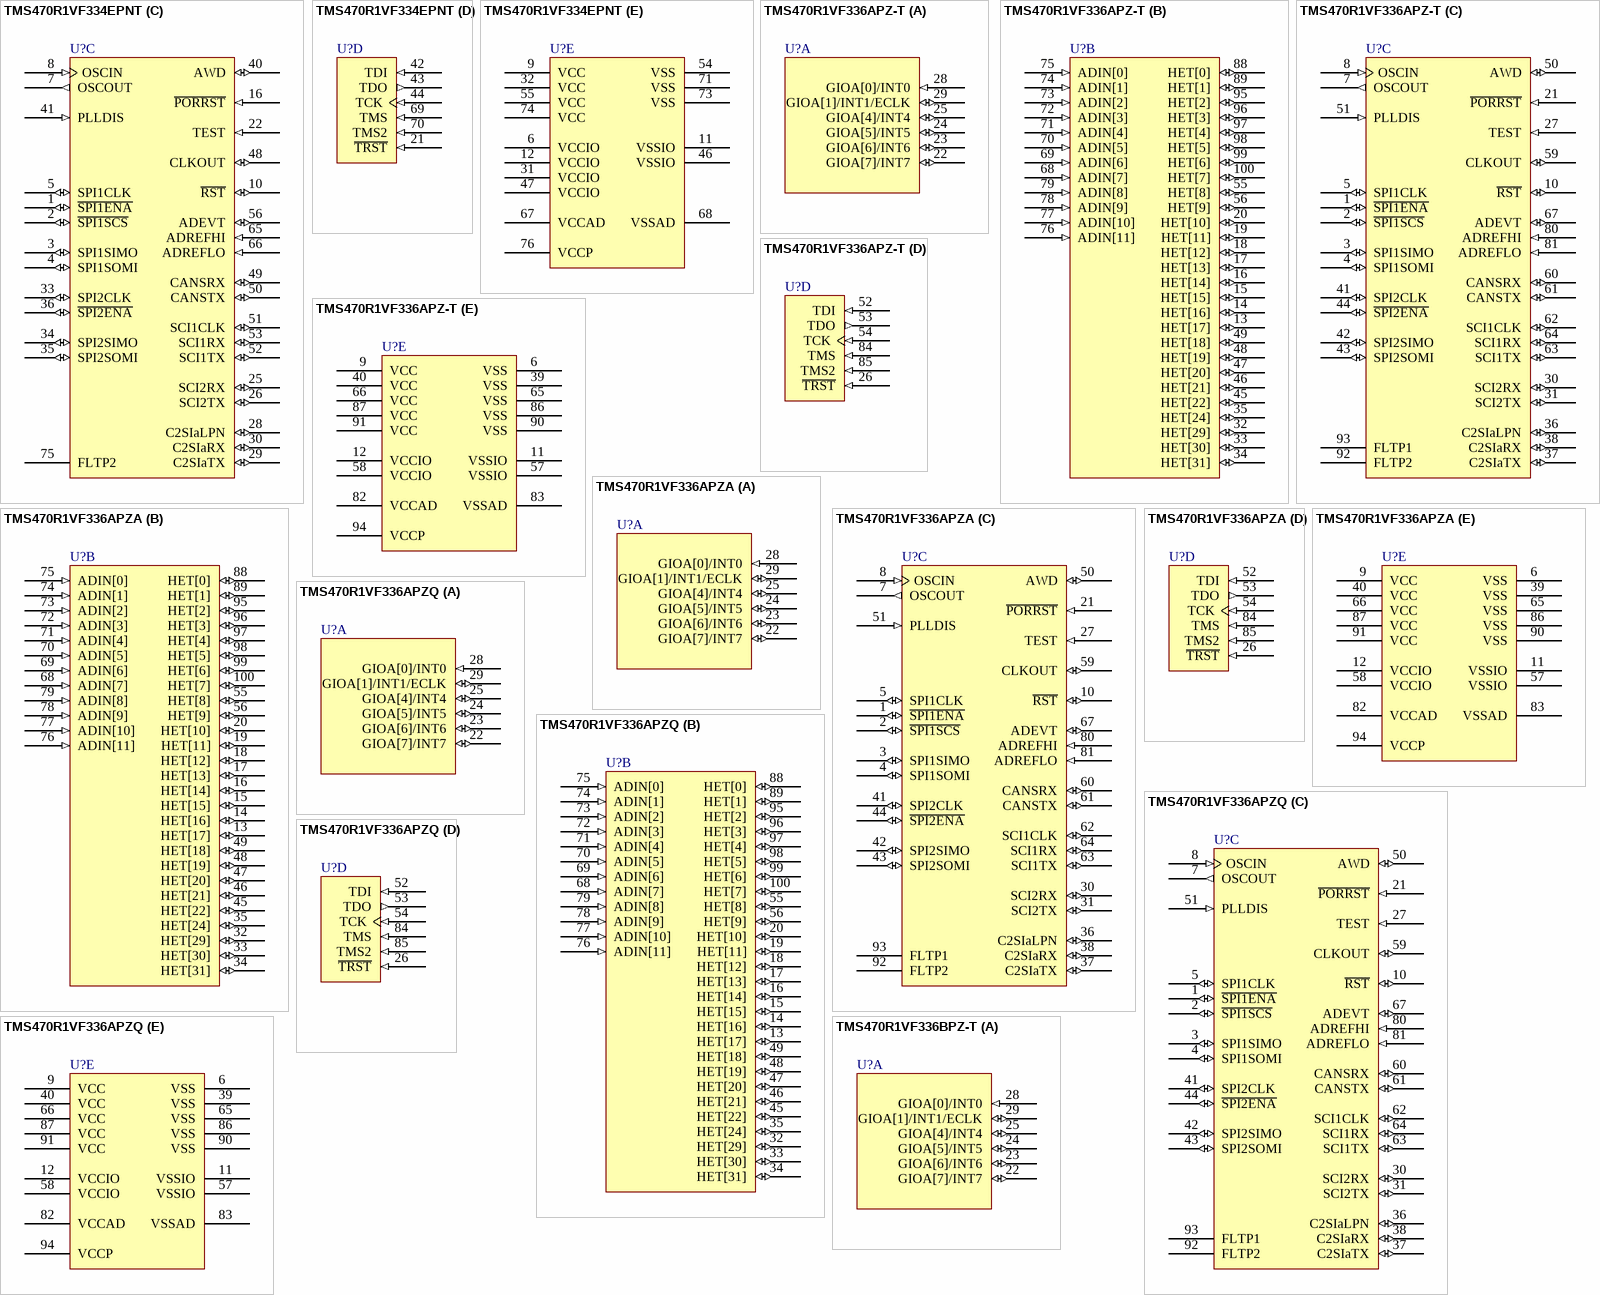
[diagram p35: symbols TMS470R1VF334EPNT to TMS470R1VF336BPZ-T]

## TMS470R1VF334EPNT
designator U?
ARM7TDMI 16/32-Bit RISC Automotive MCU, 64KB Flash, 4KB RAM, 80-pin LQFP, -40ºC to 105ºC; Published: 30-Mar-2007; DatasheetVersion: Aug-2006; PackageVersion: Dec-1996; PackageReference: PN080; Publisher: Altium Limited; PackageDescription: 80-Pin Thin Quad Flat Pack 0.5 mm Pitch; ComponentLink1Description: Manufacturer Link; ComponentLink1URL: http://www.ti.com/; ComponentLink2Description: Datasheet; ComponentLink2URL: http://focus.ti.com/lit/ds/symlink/tms470r1vf334a.pdf
footprint PN080_N (Thin QFP, 80-Leads, Body 12x12mm, Pitch 0.5mm, IPC Medium Density)
footprint PN080_L (Thin QFP, 80-Leads, Body 12x12mm, Pitch 0.5mm, IPC High Density)
footprint PN080_M (Thin QFP, 80-Leads, Body 12x12mm, Pitch 0.5mm, IPC Low Density)
part A pins: 17 GIOA[7]/INT7 (io), 18 GIOA[6]/INT6 (io), 19 GIOA[5]/INT5 (io), 20 GIOA[4]/INT4 (io), 23 GIOA[0]/INT0 (in) "GIOA[0]/INT0 (pin 23) is an input-only GIO pin.", 24 GIOA[1]/INT1/ECLK (io)
part B pins: 13 HET[16] (io), 14 HET[14] (io), 15 HET[12] (io), 27 HET[24] (io), 37 HET[22] (io), 38 HET[20] (io), 39 HET[18] (io), 45 HET[8] (io), 57 ADIN[6] (in), 58 ADIN[4] (in), 59 ADIN[2] (in), 60 ADIN[0] (in), 61 ADIN[14] (in), 62 ADIN[10] (in), 63 ADIN[12] (in), 64 ADIN[8] (in), 72 HET[0] (io), 77 HET[2] (io), 78 HET[4] (io), 79 HET[6] (io), 80 HET[7] (io)
part C pins: 1 ~{SPI1ENA} (io), 2 ~{SPI1SCS} (io), 3 SPI1SIMO (io), 4 SPI1SOMI (io), 5 SPI1CLK (io), 7 OSCOUT (out), 8 OSCIN (in), 10 ~{RST} (io), 16 ~{PORRST} (in), 22 TEST (in), 25 SCI2RX (io), 26 SCI2TX (io), 28 C2SIaLPN (io), 29 C2SIaTX (io), 30 C2SIaRX (io), 33 SPI2CLK (io), 34 SPI2SIMO (io), 35 SPI2SOMI (io), 36 ~{SPI2ENA} (io), 40 AWD (io), 41 PLLDIS (in), 48 CLKOUT (io), 49 CANSRX (io), 50 CANSTX (io), 51 SCI1CLK (io), 52 SCI1TX (io), 53 SCI1RX (io), 56 ADEVT (io), 65 ADREFHI (in), 66 ADREFLO (in), 75 FLTP2
part D pins: 21 ~{TRST} (in), 42 TDI (in), 43 TDO (out), 44 TCK (in), 69 TMS (in), 70 TMS2 (in)
part E pins: 6 VCCIO (power), 9 VCC (power), 11 VSSIO (power), 12 VCCIO (power), 31 VCCIO (power), 32 VCC (power), 46 VSSIO (power), 47 VCCIO (power), 54 VSS (power), 55 VCC (power), 67 VCCAD (power), 68 VSSAD (power), 71 VSS (power), 73 VSS (power), 74 VCC (power), 76 VCCP (power)

## TMS470R1VF336APZ-T
designator U?
ARM7TDMI 16/32-Bit RISC Automotive MCU, 128KB Flash, 8KB RAM, 100-pin LQFP, -40ºC to 105ºC; Note: The HET[28] signal is only connected to the pad, not to a package pin.; Published: 30-Mar-2007; DatasheetVersion: Sep-2006; PackageVersion: Dec-1996; PackageReference: PZ100; Publisher: Altium Limited; PackageDescription: 100-Pin Thin Quad Flat Pack 0.5 mm Pitch; ComponentLink1Description: Manufacturer Link; ComponentLink1URL: http://www.ti.com/; ComponentLink2Description: Datasheet; ComponentLink2URL: http://focus.ti.com/lit/ds/symlink/tms470r1vf336a.pdf
footprint PZ100_N (Thin QFP, 100-Leads, Body 14x14mm, Pitch 0.5mm, IPC Medium Density)
footprint PZ100_L (Thin QFP, 100-Leads, Body 14x14mm, Pitch 0.5mm, IPC High Density)
footprint PZ100_M (Thin QFP, 100-Leads, Body 14x14mm, Pitch 0.5mm, IPC Low Density)
part A pins: 22 GIOA[7]/INT7 (io), 23 GIOA[6]/INT6 (io), 24 GIOA[5]/INT5 (io), 25 GIOA[4]/INT4 (io), 28 GIOA[0]/INT0 (in), 29 GIOA[1]/INT1/ECLK (io)
part B pins: 13 HET[17] (io), 14 HET[16] (io), 15 HET[15] (io), 16 HET[14] (io), 17 HET[13] (io), 18 HET[12] (io), 19 HET[11] (io), 20 HET[10] (io), 32 HET[29] (io), 33 HET[30] (io), 34 HET[31] (io), 35 HET[24] (io), 45 HET[22] (io), 46 HET[21] (io), 47 HET[20] (io), 48 HET[19] (io), 49 HET[18] (io), 55 HET[8] (io), 56 HET[9] (io), 68 ADIN[7] (in), 69 ADIN[6] (in), 70 ADIN[5] (in), 71 ADIN[4] (in), 72 ADIN[3] (in), 73 ADIN[2] (in), 74 ADIN[1] (in), 75 ADIN[0] (in), 76 ADIN[11] (in), 77 ADIN[10] (in), 78 ADIN[9] (in), 79 ADIN[8] (in), 88 HET[0] (io), 89 HET[1] (io), 95 HET[2] (io), 96 HET[3] (io), 97 HET[4] (io), 98 HET[5] (io), 99 HET[6] (io), 100 HET[7] (io)
part C pins: 1 ~{SPI1ENA} (io), 2 ~{SPI1SCS} (io), 3 SPI1SIMO (io), 4 SPI1SOMI (io), 5 SPI1CLK (io), 7 OSCOUT (out), 8 OSCIN (in), 10 ~{RST} (io), 21 ~{PORRST} (in), 27 TEST (in), 30 SCI2RX (io), 31 SCI2TX (io), 36 C2SIaLPN (io), 37 C2SIaTX (io), 38 C2SIaRX (io), 41 SPI2CLK (io), 42 SPI2SIMO (io), 43 SPI2SOMI (io), 44 ~{SPI2ENA} (io), 50 AWD (io), 51 PLLDIS (in), 59 CLKOUT (io), 60 CANSRX (io), 61 CANSTX (io), 62 SCI1CLK (io), 63 SCI1TX (io), 64 SCI1RX (io), 67 ADEVT (io), 80 ADREFHI (in), 81 ADREFLO (in), 92 FLTP2, 93 FLTP1
part D pins: 26 ~{TRST} (in), 52 TDI (in), 53 TDO (out), 54 TCK (in), 84 TMS (in), 85 TMS2 (in)
part E pins: 6 VSS (power), 9 VCC (power), 11 VSSIO (power), 12 VCCIO (power), 39 VSS (power), 40 VCC (power), 57 VSSIO (power), 58 VCCIO (power), 65 VSS (power), 66 VCC (power), 82 VCCAD (power), 83 VSSAD (power), 86 VSS (power), 87 VCC (power), 90 VSS (power), 91 VCC (power), 94 VCCP (power)

## TMS470R1VF336APZA
designator U?
ARM7TDMI 16/32-Bit RISC Automotive MCU, 128KB Flash, 8KB RAM, 100-pin LQFP, -40ºC to 85ºC; Note: The HET[28] signal is only connected to the pad, not to a package pin.; Published: 30-Mar-2007; DatasheetVersion: Sep-2006; PackageVersion: Dec-1996; PackageReference: PZ100; Publisher: Altium Limited; PackageDescription: 100-Pin Thin Quad Flat Pack 0.5 mm Pitch; ComponentLink1Description: Manufacturer Link; ComponentLink1URL: http://www.ti.com/; ComponentLink2Description: Datasheet; ComponentLink2URL: http://focus.ti.com/lit/ds/symlink/tms470r1vf336a.pdf
footprint PZ100_N (Thin QFP, 100-Leads, Body 14x14mm, Pitch 0.5mm, IPC Medium Density)
footprint PZ100_L (Thin QFP, 100-Leads, Body 14x14mm, Pitch 0.5mm, IPC High Density)
footprint PZ100_M (Thin QFP, 100-Leads, Body 14x14mm, Pitch 0.5mm, IPC Low Density)
part A pins: 22 GIOA[7]/INT7 (io), 23 GIOA[6]/INT6 (io), 24 GIOA[5]/INT5 (io), 25 GIOA[4]/INT4 (io), 28 GIOA[0]/INT0 (in), 29 GIOA[1]/INT1/ECLK (io)
part B pins: 13 HET[17] (io), 14 HET[16] (io), 15 HET[15] (io), 16 HET[14] (io), 17 HET[13] (io), 18 HET[12] (io), 19 HET[11] (io), 20 HET[10] (io), 32 HET[29] (io), 33 HET[30] (io), 34 HET[31] (io), 35 HET[24] (io), 45 HET[22] (io), 46 HET[21] (io), 47 HET[20] (io), 48 HET[19] (io), 49 HET[18] (io), 55 HET[8] (io), 56 HET[9] (io), 68 ADIN[7] (in), 69 ADIN[6] (in), 70 ADIN[5] (in), 71 ADIN[4] (in), 72 ADIN[3] (in), 73 ADIN[2] (in), 74 ADIN[1] (in), 75 ADIN[0] (in), 76 ADIN[11] (in), 77 ADIN[10] (in), 78 ADIN[9] (in), 79 ADIN[8] (in), 88 HET[0] (io), 89 HET[1] (io), 95 HET[2] (io), 96 HET[3] (io), 97 HET[4] (io), 98 HET[5] (io), 99 HET[6] (io), 100 HET[7] (io)
part C pins: 1 ~{SPI1ENA} (io), 2 ~{SPI1SCS} (io), 3 SPI1SIMO (io), 4 SPI1SOMI (io), 5 SPI1CLK (io), 7 OSCOUT (out), 8 OSCIN (in), 10 ~{RST} (io), 21 ~{PORRST} (in), 27 TEST (in), 30 SCI2RX (io), 31 SCI2TX (io), 36 C2SIaLPN (io), 37 C2SIaTX (io), 38 C2SIaRX (io), 41 SPI2CLK (io), 42 SPI2SIMO (io), 43 SPI2SOMI (io), 44 ~{SPI2ENA} (io), 50 AWD (io), 51 PLLDIS (in), 59 CLKOUT (io), 60 CANSRX (io), 61 CANSTX (io), 62 SCI1CLK (io), 63 SCI1TX (io), 64 SCI1RX (io), 67 ADEVT (io), 80 ADREFHI (in), 81 ADREFLO (in), 92 FLTP2, 93 FLTP1
part D pins: 26 ~{TRST} (in), 52 TDI (in), 53 TDO (out), 54 TCK (in), 84 TMS (in), 85 TMS2 (in)
part E pins: 6 VSS (power), 9 VCC (power), 11 VSSIO (power), 12 VCCIO (power), 39 VSS (power), 40 VCC (power), 57 VSSIO (power), 58 VCCIO (power), 65 VSS (power), 66 VCC (power), 82 VCCAD (power), 83 VSSAD (power), 86 VSS (power), 87 VCC (power), 90 VSS (power), 91 VCC (power), 94 VCCP (power)

## TMS470R1VF336APZQ
designator U?
ARM7TDMI 16/32-Bit RISC Automotive MCU, 128KB Flash, 8KB RAM, 100-pin LQFP, -40ºC to 125ºC; Note: The HET[28] signal is only connected to the pad, not to a package pin.; Published: 30-Mar-2007; DatasheetVersion: Sep-2006; PackageVersion: Dec-1996; PackageReference: PZ100; Publisher: Altium Limited; PackageDescription: 100-Pin Thin Quad Flat Pack 0.5 mm Pitch; ComponentLink1Description: Manufacturer Link; ComponentLink1URL: http://www.ti.com/; ComponentLink2Description: Datasheet; ComponentLink2URL: http://focus.ti.com/lit/ds/symlink/tms470r1vf336a.pdf
footprint PZ100_N (Thin QFP, 100-Leads, Body 14x14mm, Pitch 0.5mm, IPC Medium Density)
footprint PZ100_L (Thin QFP, 100-Leads, Body 14x14mm, Pitch 0.5mm, IPC High Density)
footprint PZ100_M (Thin QFP, 100-Leads, Body 14x14mm, Pitch 0.5mm, IPC Low Density)
part A pins: 22 GIOA[7]/INT7 (io), 23 GIOA[6]/INT6 (io), 24 GIOA[5]/INT5 (io), 25 GIOA[4]/INT4 (io), 28 GIOA[0]/INT0 (in), 29 GIOA[1]/INT1/ECLK (io)
part B pins: 13 HET[17] (io), 14 HET[16] (io), 15 HET[15] (io), 16 HET[14] (io), 17 HET[13] (io), 18 HET[12] (io), 19 HET[11] (io), 20 HET[10] (io), 32 HET[29] (io), 33 HET[30] (io), 34 HET[31] (io), 35 HET[24] (io), 45 HET[22] (io), 46 HET[21] (io), 47 HET[20] (io), 48 HET[19] (io), 49 HET[18] (io), 55 HET[8] (io), 56 HET[9] (io), 68 ADIN[7] (in), 69 ADIN[6] (in), 70 ADIN[5] (in), 71 ADIN[4] (in), 72 ADIN[3] (in), 73 ADIN[2] (in), 74 ADIN[1] (in), 75 ADIN[0] (in), 76 ADIN[11] (in), 77 ADIN[10] (in), 78 ADIN[9] (in), 79 ADIN[8] (in), 88 HET[0] (io), 89 HET[1] (io), 95 HET[2] (io), 96 HET[3] (io), 97 HET[4] (io), 98 HET[5] (io), 99 HET[6] (io), 100 HET[7] (io)
part C pins: 1 ~{SPI1ENA} (io), 2 ~{SPI1SCS} (io), 3 SPI1SIMO (io), 4 SPI1SOMI (io), 5 SPI1CLK (io), 7 OSCOUT (out), 8 OSCIN (in), 10 ~{RST} (io), 21 ~{PORRST} (in), 27 TEST (in), 30 SCI2RX (io), 31 SCI2TX (io), 36 C2SIaLPN (io), 37 C2SIaTX (io), 38 C2SIaRX (io), 41 SPI2CLK (io), 42 SPI2SIMO (io), 43 SPI2SOMI (io), 44 ~{SPI2ENA} (io), 50 AWD (io), 51 PLLDIS (in), 59 CLKOUT (io), 60 CANSRX (io), 61 CANSTX (io), 62 SCI1CLK (io), 63 SCI1TX (io), 64 SCI1RX (io), 67 ADEVT (io), 80 ADREFHI (in), 81 ADREFLO (in), 92 FLTP2, 93 FLTP1
part D pins: 26 ~{TRST} (in), 52 TDI (in), 53 TDO (out), 54 TCK (in), 84 TMS (in), 85 TMS2 (in)
part E pins: 6 VSS (power), 9 VCC (power), 11 VSSIO (power), 12 VCCIO (power), 39 VSS (power), 40 VCC (power), 57 VSSIO (power), 58 VCCIO (power), 65 VSS (power), 66 VCC (power), 82 VCCAD (power), 83 VSSAD (power), 86 VSS (power), 87 VCC (power), 90 VSS (power), 91 VCC (power), 94 VCCP (power)

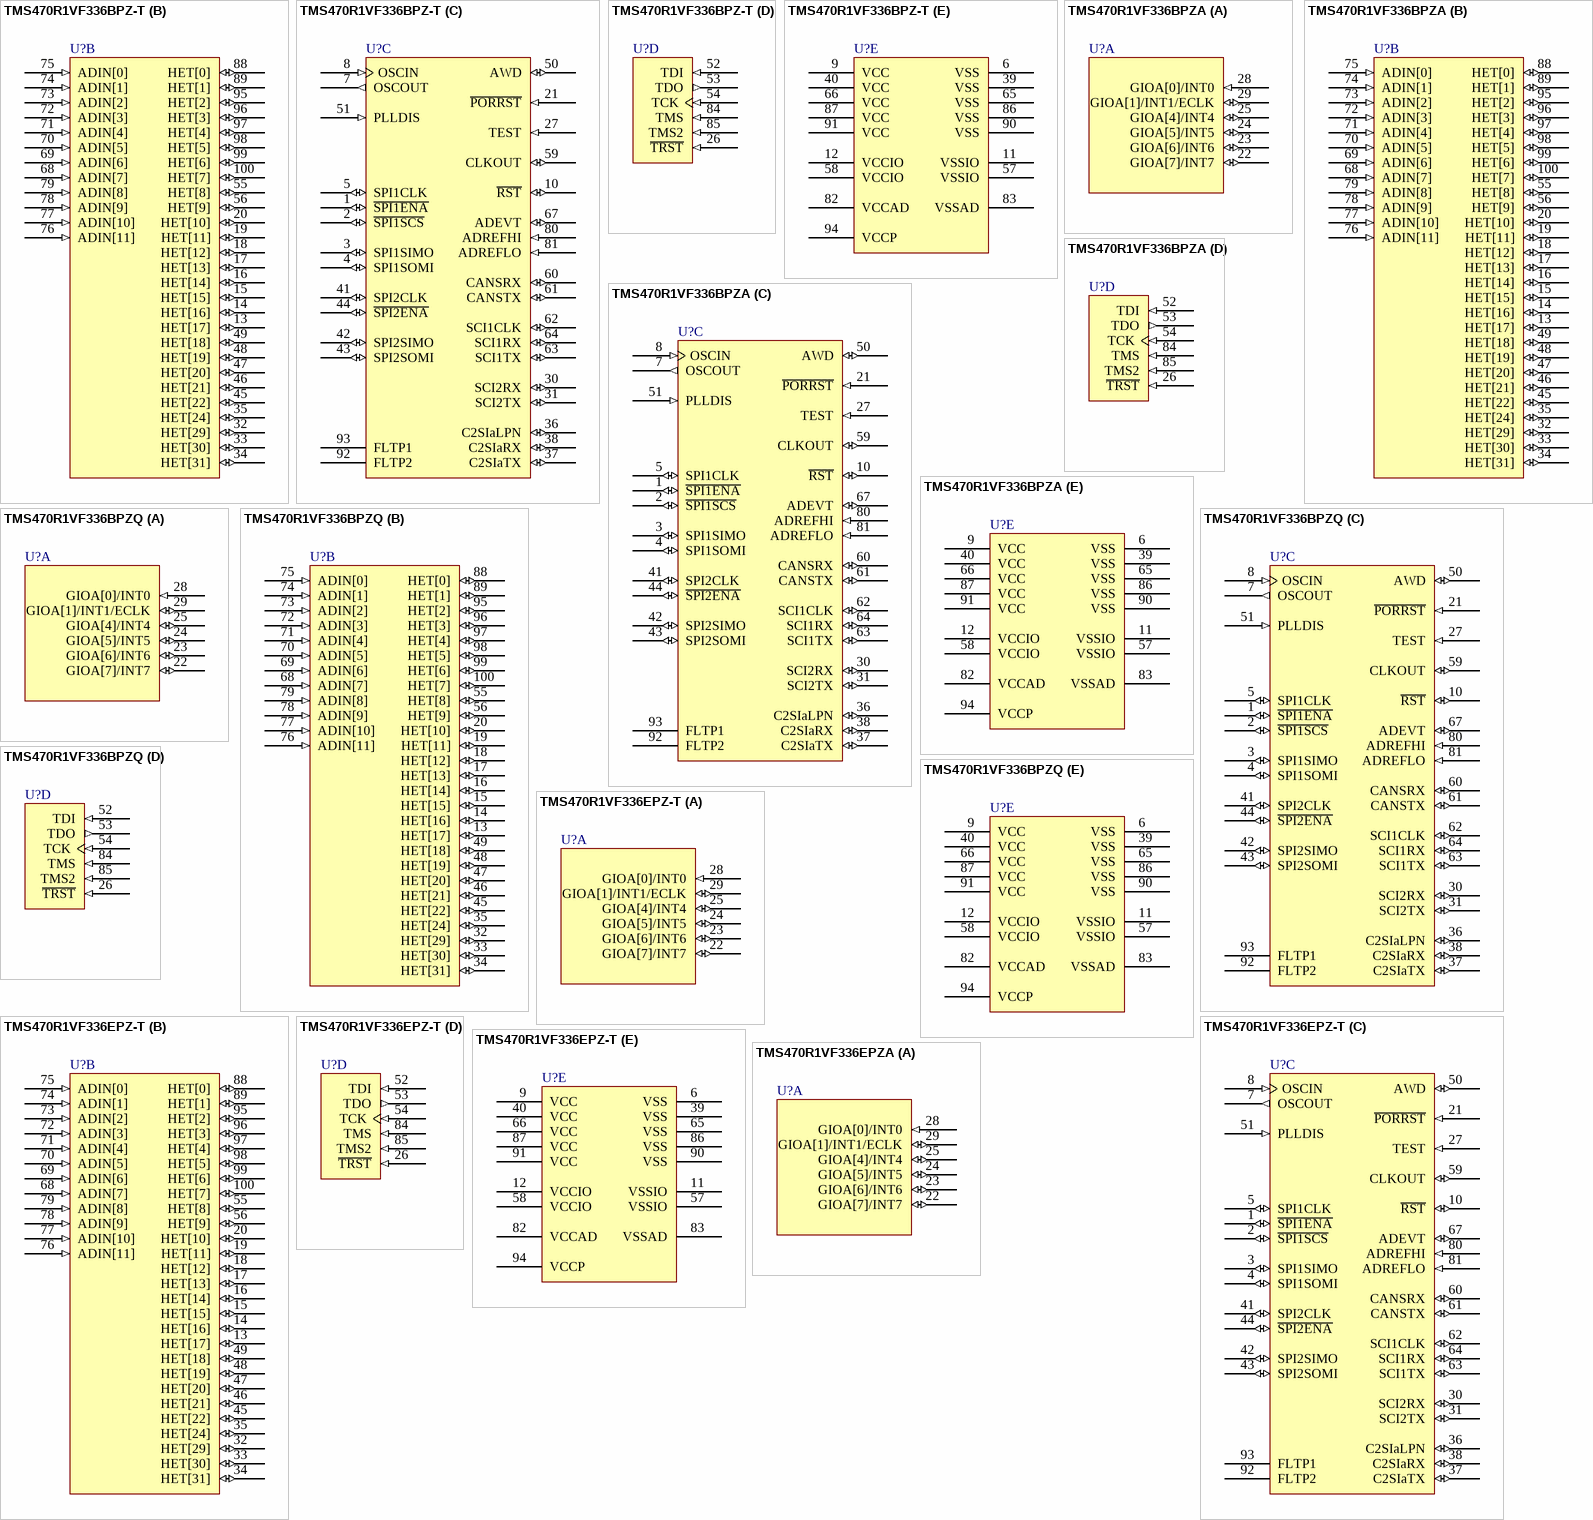
[diagram p36: symbols TMS470R1VF336BPZ-T to TMS470R1VF336EPZA]

## TMS470R1VF336BPZ-T
designator U?
ARM7TDMI 16/32-Bit RISC Automotive MCU, 128KB Flash, 8KB RAM, 100-pin LQFP, -40ºC to 105ºC; Note: The HET[28] signal is only connected to the pad, not to a package pin.; Published: 30-Mar-2007; DatasheetVersion: Sep-2006; PackageVersion: Dec-1996; PackageReference: PZ100; Publisher: Altium Limited; PackageDescription: 100-Pin Thin Quad Flat Pack 0.5 mm Pitch; ComponentLink1Description: Manufacturer Link; ComponentLink1URL: http://www.ti.com/; ComponentLink2Description: Datasheet; ComponentLink2URL: http://focus.ti.com/lit/ds/symlink/tms470r1vf336a.pdf
footprint PZ100_N (Thin QFP, 100-Leads, Body 14x14mm, Pitch 0.5mm, IPC Medium Density)
footprint PZ100_L (Thin QFP, 100-Leads, Body 14x14mm, Pitch 0.5mm, IPC High Density)
footprint PZ100_M (Thin QFP, 100-Leads, Body 14x14mm, Pitch 0.5mm, IPC Low Density)
part A pins: 22 GIOA[7]/INT7 (io), 23 GIOA[6]/INT6 (io), 24 GIOA[5]/INT5 (io), 25 GIOA[4]/INT4 (io), 28 GIOA[0]/INT0 (in), 29 GIOA[1]/INT1/ECLK (io)
part B pins: 13 HET[17] (io), 14 HET[16] (io), 15 HET[15] (io), 16 HET[14] (io), 17 HET[13] (io), 18 HET[12] (io), 19 HET[11] (io), 20 HET[10] (io), 32 HET[29] (io), 33 HET[30] (io), 34 HET[31] (io), 35 HET[24] (io), 45 HET[22] (io), 46 HET[21] (io), 47 HET[20] (io), 48 HET[19] (io), 49 HET[18] (io), 55 HET[8] (io), 56 HET[9] (io), 68 ADIN[7] (in), 69 ADIN[6] (in), 70 ADIN[5] (in), 71 ADIN[4] (in), 72 ADIN[3] (in), 73 ADIN[2] (in), 74 ADIN[1] (in), 75 ADIN[0] (in), 76 ADIN[11] (in), 77 ADIN[10] (in), 78 ADIN[9] (in), 79 ADIN[8] (in), 88 HET[0] (io), 89 HET[1] (io), 95 HET[2] (io), 96 HET[3] (io), 97 HET[4] (io), 98 HET[5] (io), 99 HET[6] (io), 100 HET[7] (io)
part C pins: 1 ~{SPI1ENA} (io), 2 ~{SPI1SCS} (io), 3 SPI1SIMO (io), 4 SPI1SOMI (io), 5 SPI1CLK (io), 7 OSCOUT (out), 8 OSCIN (in), 10 ~{RST} (io), 21 ~{PORRST} (in), 27 TEST (in), 30 SCI2RX (io), 31 SCI2TX (io), 36 C2SIaLPN (io), 37 C2SIaTX (io), 38 C2SIaRX (io), 41 SPI2CLK (io), 42 SPI2SIMO (io), 43 SPI2SOMI (io), 44 ~{SPI2ENA} (io), 50 AWD (io), 51 PLLDIS (in), 59 CLKOUT (io), 60 CANSRX (io), 61 CANSTX (io), 62 SCI1CLK (io), 63 SCI1TX (io), 64 SCI1RX (io), 67 ADEVT (io), 80 ADREFHI (in), 81 ADREFLO (in), 92 FLTP2, 93 FLTP1
part D pins: 26 ~{TRST} (in), 52 TDI (in), 53 TDO (out), 54 TCK (in), 84 TMS (in), 85 TMS2 (in)
part E pins: 6 VSS (power), 9 VCC (power), 11 VSSIO (power), 12 VCCIO (power), 39 VSS (power), 40 VCC (power), 57 VSSIO (power), 58 VCCIO (power), 65 VSS (power), 66 VCC (power), 82 VCCAD (power), 83 VSSAD (power), 86 VSS (power), 87 VCC (power), 90 VSS (power), 91 VCC (power), 94 VCCP (power)

## TMS470R1VF336BPZA
designator U?
ARM7TDMI 16/32-Bit RISC Automotive MCU, 128KB Flash, 8KB RAM, 100-pin LQFP, -40ºC to 85ºC; Note: The HET[28] signal is only connected to the pad, not to a package pin.; Published: 30-Mar-2007; DatasheetVersion: Sep-2006; PackageVersion: Dec-1996; PackageReference: PZ100; Publisher: Altium Limited; PackageDescription: 100-Pin Thin Quad Flat Pack 0.5 mm Pitch; ComponentLink1Description: Manufacturer Link; ComponentLink1URL: http://www.ti.com/; ComponentLink2Description: Datasheet; ComponentLink2URL: http://focus.ti.com/lit/ds/symlink/tms470r1vf336a.pdf
footprint PZ100_N (Thin QFP, 100-Leads, Body 14x14mm, Pitch 0.5mm, IPC Medium Density)
footprint PZ100_L (Thin QFP, 100-Leads, Body 14x14mm, Pitch 0.5mm, IPC High Density)
footprint PZ100_M (Thin QFP, 100-Leads, Body 14x14mm, Pitch 0.5mm, IPC Low Density)
part A pins: 22 GIOA[7]/INT7 (io), 23 GIOA[6]/INT6 (io), 24 GIOA[5]/INT5 (io), 25 GIOA[4]/INT4 (io), 28 GIOA[0]/INT0 (in), 29 GIOA[1]/INT1/ECLK (io)
part B pins: 13 HET[17] (io), 14 HET[16] (io), 15 HET[15] (io), 16 HET[14] (io), 17 HET[13] (io), 18 HET[12] (io), 19 HET[11] (io), 20 HET[10] (io), 32 HET[29] (io), 33 HET[30] (io), 34 HET[31] (io), 35 HET[24] (io), 45 HET[22] (io), 46 HET[21] (io), 47 HET[20] (io), 48 HET[19] (io), 49 HET[18] (io), 55 HET[8] (io), 56 HET[9] (io), 68 ADIN[7] (in), 69 ADIN[6] (in), 70 ADIN[5] (in), 71 ADIN[4] (in), 72 ADIN[3] (in), 73 ADIN[2] (in), 74 ADIN[1] (in), 75 ADIN[0] (in), 76 ADIN[11] (in), 77 ADIN[10] (in), 78 ADIN[9] (in), 79 ADIN[8] (in), 88 HET[0] (io), 89 HET[1] (io), 95 HET[2] (io), 96 HET[3] (io), 97 HET[4] (io), 98 HET[5] (io), 99 HET[6] (io), 100 HET[7] (io)
part C pins: 1 ~{SPI1ENA} (io), 2 ~{SPI1SCS} (io), 3 SPI1SIMO (io), 4 SPI1SOMI (io), 5 SPI1CLK (io), 7 OSCOUT (out), 8 OSCIN (in), 10 ~{RST} (io), 21 ~{PORRST} (in), 27 TEST (in), 30 SCI2RX (io), 31 SCI2TX (io), 36 C2SIaLPN (io), 37 C2SIaTX (io), 38 C2SIaRX (io), 41 SPI2CLK (io), 42 SPI2SIMO (io), 43 SPI2SOMI (io), 44 ~{SPI2ENA} (io), 50 AWD (io), 51 PLLDIS (in), 59 CLKOUT (io), 60 CANSRX (io), 61 CANSTX (io), 62 SCI1CLK (io), 63 SCI1TX (io), 64 SCI1RX (io), 67 ADEVT (io), 80 ADREFHI (in), 81 ADREFLO (in), 92 FLTP2, 93 FLTP1
part D pins: 26 ~{TRST} (in), 52 TDI (in), 53 TDO (out), 54 TCK (in), 84 TMS (in), 85 TMS2 (in)
part E pins: 6 VSS (power), 9 VCC (power), 11 VSSIO (power), 12 VCCIO (power), 39 VSS (power), 40 VCC (power), 57 VSSIO (power), 58 VCCIO (power), 65 VSS (power), 66 VCC (power), 82 VCCAD (power), 83 VSSAD (power), 86 VSS (power), 87 VCC (power), 90 VSS (power), 91 VCC (power), 94 VCCP (power)

## TMS470R1VF336BPZQ
designator U?
ARM7TDMI 16/32-Bit RISC Automotive MCU, 128KB Flash, 8KB RAM, 100-pin LQFP, -40ºC to 125ºC; Note: The HET[28] signal is only connected to the pad, not to a package pin.; Published: 30-Mar-2007; DatasheetVersion: Sep-2006; PackageVersion: Dec-1996; PackageReference: PZ100; Publisher: Altium Limited; PackageDescription: 100-Pin Thin Quad Flat Pack 0.5 mm Pitch; ComponentLink1Description: Manufacturer Link; ComponentLink1URL: http://www.ti.com/; ComponentLink2Description: Datasheet; ComponentLink2URL: http://focus.ti.com/lit/ds/symlink/tms470r1vf336a.pdf
footprint PZ100_N (Thin QFP, 100-Leads, Body 14x14mm, Pitch 0.5mm, IPC Medium Density)
footprint PZ100_L (Thin QFP, 100-Leads, Body 14x14mm, Pitch 0.5mm, IPC High Density)
footprint PZ100_M (Thin QFP, 100-Leads, Body 14x14mm, Pitch 0.5mm, IPC Low Density)
part A pins: 22 GIOA[7]/INT7 (io), 23 GIOA[6]/INT6 (io), 24 GIOA[5]/INT5 (io), 25 GIOA[4]/INT4 (io), 28 GIOA[0]/INT0 (in), 29 GIOA[1]/INT1/ECLK (io)
part B pins: 13 HET[17] (io), 14 HET[16] (io), 15 HET[15] (io), 16 HET[14] (io), 17 HET[13] (io), 18 HET[12] (io), 19 HET[11] (io), 20 HET[10] (io), 32 HET[29] (io), 33 HET[30] (io), 34 HET[31] (io), 35 HET[24] (io), 45 HET[22] (io), 46 HET[21] (io), 47 HET[20] (io), 48 HET[19] (io), 49 HET[18] (io), 55 HET[8] (io), 56 HET[9] (io), 68 ADIN[7] (in), 69 ADIN[6] (in), 70 ADIN[5] (in), 71 ADIN[4] (in), 72 ADIN[3] (in), 73 ADIN[2] (in), 74 ADIN[1] (in), 75 ADIN[0] (in), 76 ADIN[11] (in), 77 ADIN[10] (in), 78 ADIN[9] (in), 79 ADIN[8] (in), 88 HET[0] (io), 89 HET[1] (io), 95 HET[2] (io), 96 HET[3] (io), 97 HET[4] (io), 98 HET[5] (io), 99 HET[6] (io), 100 HET[7] (io)
part C pins: 1 ~{SPI1ENA} (io), 2 ~{SPI1SCS} (io), 3 SPI1SIMO (io), 4 SPI1SOMI (io), 5 SPI1CLK (io), 7 OSCOUT (out), 8 OSCIN (in), 10 ~{RST} (io), 21 ~{PORRST} (in), 27 TEST (in), 30 SCI2RX (io), 31 SCI2TX (io), 36 C2SIaLPN (io), 37 C2SIaTX (io), 38 C2SIaRX (io), 41 SPI2CLK (io), 42 SPI2SIMO (io), 43 SPI2SOMI (io), 44 ~{SPI2ENA} (io), 50 AWD (io), 51 PLLDIS (in), 59 CLKOUT (io), 60 CANSRX (io), 61 CANSTX (io), 62 SCI1CLK (io), 63 SCI1TX (io), 64 SCI1RX (io), 67 ADEVT (io), 80 ADREFHI (in), 81 ADREFLO (in), 92 FLTP2, 93 FLTP1
part D pins: 26 ~{TRST} (in), 52 TDI (in), 53 TDO (out), 54 TCK (in), 84 TMS (in), 85 TMS2 (in)
part E pins: 6 VSS (power), 9 VCC (power), 11 VSSIO (power), 12 VCCIO (power), 39 VSS (power), 40 VCC (power), 57 VSSIO (power), 58 VCCIO (power), 65 VSS (power), 66 VCC (power), 82 VCCAD (power), 83 VSSAD (power), 86 VSS (power), 87 VCC (power), 90 VSS (power), 91 VCC (power), 94 VCCP (power)

## TMS470R1VF336EPZ-T
designator U?
ARM7TDMI 16/32-Bit RISC Automotive MCU, 128KB Flash, 8KB RAM, 100-pin LQFP, -40ºC to 105ºC; Note: The HET[28] signal is only connected to the pad, not to a package pin.; Published: 30-Mar-2007; DatasheetVersion: Sep-2006; PackageVersion: Dec-1996; PackageReference: PZ100; Publisher: Altium Limited; PackageDescription: 100-Pin Thin Quad Flat Pack 0.5 mm Pitch; ComponentLink1Description: Manufacturer Link; ComponentLink1URL: http://www.ti.com/; ComponentLink2Description: Datasheet; ComponentLink2URL: http://focus.ti.com/lit/ds/symlink/tms470r1vf336a.pdf
footprint PZ100_N (Thin QFP, 100-Leads, Body 14x14mm, Pitch 0.5mm, IPC Medium Density)
footprint PZ100_L (Thin QFP, 100-Leads, Body 14x14mm, Pitch 0.5mm, IPC High Density)
footprint PZ100_M (Thin QFP, 100-Leads, Body 14x14mm, Pitch 0.5mm, IPC Low Density)
part A pins: 22 GIOA[7]/INT7 (io), 23 GIOA[6]/INT6 (io), 24 GIOA[5]/INT5 (io), 25 GIOA[4]/INT4 (io), 28 GIOA[0]/INT0 (in), 29 GIOA[1]/INT1/ECLK (io)
part B pins: 13 HET[17] (io), 14 HET[16] (io), 15 HET[15] (io), 16 HET[14] (io), 17 HET[13] (io), 18 HET[12] (io), 19 HET[11] (io), 20 HET[10] (io), 32 HET[29] (io), 33 HET[30] (io), 34 HET[31] (io), 35 HET[24] (io), 45 HET[22] (io), 46 HET[21] (io), 47 HET[20] (io), 48 HET[19] (io), 49 HET[18] (io), 55 HET[8] (io), 56 HET[9] (io), 68 ADIN[7] (in), 69 ADIN[6] (in), 70 ADIN[5] (in), 71 ADIN[4] (in), 72 ADIN[3] (in), 73 ADIN[2] (in), 74 ADIN[1] (in), 75 ADIN[0] (in), 76 ADIN[11] (in), 77 ADIN[10] (in), 78 ADIN[9] (in), 79 ADIN[8] (in), 88 HET[0] (io), 89 HET[1] (io), 95 HET[2] (io), 96 HET[3] (io), 97 HET[4] (io), 98 HET[5] (io), 99 HET[6] (io), 100 HET[7] (io)
part C pins: 1 ~{SPI1ENA} (io), 2 ~{SPI1SCS} (io), 3 SPI1SIMO (io), 4 SPI1SOMI (io), 5 SPI1CLK (io), 7 OSCOUT (out), 8 OSCIN (in), 10 ~{RST} (io), 21 ~{PORRST} (in), 27 TEST (in), 30 SCI2RX (io), 31 SCI2TX (io), 36 C2SIaLPN (io), 37 C2SIaTX (io), 38 C2SIaRX (io), 41 SPI2CLK (io), 42 SPI2SIMO (io), 43 SPI2SOMI (io), 44 ~{SPI2ENA} (io), 50 AWD (io), 51 PLLDIS (in), 59 CLKOUT (io), 60 CANSRX (io), 61 CANSTX (io), 62 SCI1CLK (io), 63 SCI1TX (io), 64 SCI1RX (io), 67 ADEVT (io), 80 ADREFHI (in), 81 ADREFLO (in), 92 FLTP2, 93 FLTP1
part D pins: 26 ~{TRST} (in), 52 TDI (in), 53 TDO (out), 54 TCK (in), 84 TMS (in), 85 TMS2 (in)
part E pins: 6 VSS (power), 9 VCC (power), 11 VSSIO (power), 12 VCCIO (power), 39 VSS (power), 40 VCC (power), 57 VSSIO (power), 58 VCCIO (power), 65 VSS (power), 66 VCC (power), 82 VCCAD (power), 83 VSSAD (power), 86 VSS (power), 87 VCC (power), 90 VSS (power), 91 VCC (power), 94 VCCP (power)

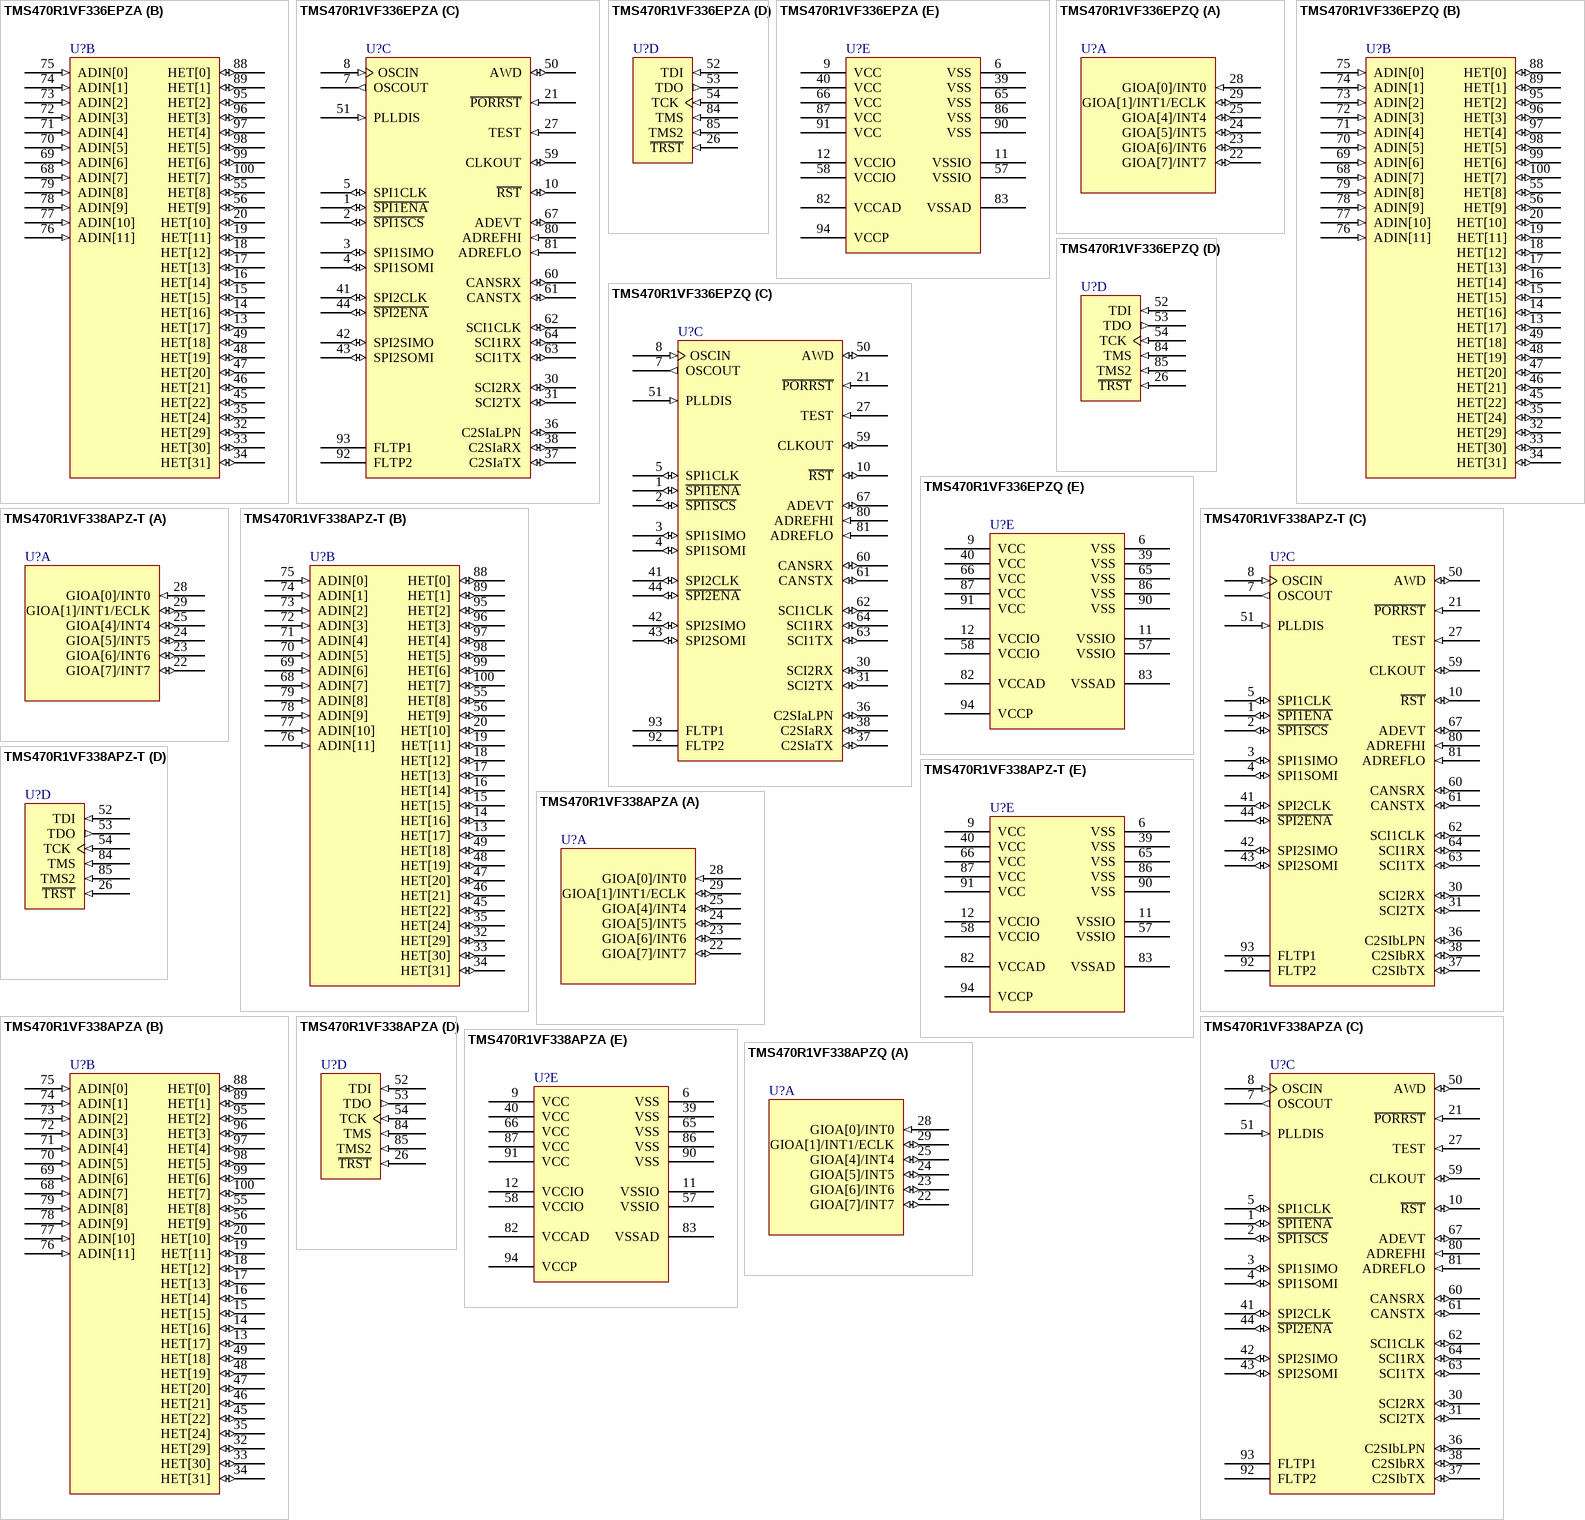
[diagram p37: symbols TMS470R1VF336EPZA to TMS470R1VF338APZQ]

## TMS470R1VF336EPZA
designator U?
ARM7TDMI 16/32-Bit RISC Automotive MCU, 128KB Flash, 8KB RAM, 100-pin LQFP, -40ºC to 85ºC; Note: The HET[28] signal is only connected to the pad, not to a package pin.; Published: 30-Mar-2007; DatasheetVersion: Sep-2006; PackageVersion: Dec-1996; PackageReference: PZ100; Publisher: Altium Limited; PackageDescription: 100-Pin Thin Quad Flat Pack 0.5 mm Pitch; ComponentLink1Description: Manufacturer Link; ComponentLink1URL: http://www.ti.com/; ComponentLink2Description: Datasheet; ComponentLink2URL: http://focus.ti.com/lit/ds/symlink/tms470r1vf336a.pdf
footprint PZ100_N (Thin QFP, 100-Leads, Body 14x14mm, Pitch 0.5mm, IPC Medium Density)
footprint PZ100_L (Thin QFP, 100-Leads, Body 14x14mm, Pitch 0.5mm, IPC High Density)
footprint PZ100_M (Thin QFP, 100-Leads, Body 14x14mm, Pitch 0.5mm, IPC Low Density)
part A pins: 22 GIOA[7]/INT7 (io), 23 GIOA[6]/INT6 (io), 24 GIOA[5]/INT5 (io), 25 GIOA[4]/INT4 (io), 28 GIOA[0]/INT0 (in), 29 GIOA[1]/INT1/ECLK (io)
part B pins: 13 HET[17] (io), 14 HET[16] (io), 15 HET[15] (io), 16 HET[14] (io), 17 HET[13] (io), 18 HET[12] (io), 19 HET[11] (io), 20 HET[10] (io), 32 HET[29] (io), 33 HET[30] (io), 34 HET[31] (io), 35 HET[24] (io), 45 HET[22] (io), 46 HET[21] (io), 47 HET[20] (io), 48 HET[19] (io), 49 HET[18] (io), 55 HET[8] (io), 56 HET[9] (io), 68 ADIN[7] (in), 69 ADIN[6] (in), 70 ADIN[5] (in), 71 ADIN[4] (in), 72 ADIN[3] (in), 73 ADIN[2] (in), 74 ADIN[1] (in), 75 ADIN[0] (in), 76 ADIN[11] (in), 77 ADIN[10] (in), 78 ADIN[9] (in), 79 ADIN[8] (in), 88 HET[0] (io), 89 HET[1] (io), 95 HET[2] (io), 96 HET[3] (io), 97 HET[4] (io), 98 HET[5] (io), 99 HET[6] (io), 100 HET[7] (io)
part C pins: 1 ~{SPI1ENA} (io), 2 ~{SPI1SCS} (io), 3 SPI1SIMO (io), 4 SPI1SOMI (io), 5 SPI1CLK (io), 7 OSCOUT (out), 8 OSCIN (in), 10 ~{RST} (io), 21 ~{PORRST} (in), 27 TEST (in), 30 SCI2RX (io), 31 SCI2TX (io), 36 C2SIaLPN (io), 37 C2SIaTX (io), 38 C2SIaRX (io), 41 SPI2CLK (io), 42 SPI2SIMO (io), 43 SPI2SOMI (io), 44 ~{SPI2ENA} (io), 50 AWD (io), 51 PLLDIS (in), 59 CLKOUT (io), 60 CANSRX (io), 61 CANSTX (io), 62 SCI1CLK (io), 63 SCI1TX (io), 64 SCI1RX (io), 67 ADEVT (io), 80 ADREFHI (in), 81 ADREFLO (in), 92 FLTP2, 93 FLTP1
part D pins: 26 ~{TRST} (in), 52 TDI (in), 53 TDO (out), 54 TCK (in), 84 TMS (in), 85 TMS2 (in)
part E pins: 6 VSS (power), 9 VCC (power), 11 VSSIO (power), 12 VCCIO (power), 39 VSS (power), 40 VCC (power), 57 VSSIO (power), 58 VCCIO (power), 65 VSS (power), 66 VCC (power), 82 VCCAD (power), 83 VSSAD (power), 86 VSS (power), 87 VCC (power), 90 VSS (power), 91 VCC (power), 94 VCCP (power)

## TMS470R1VF336EPZQ
designator U?
ARM7TDMI 16/32-Bit RISC Automotive MCU, 128KB Flash, 8KB RAM, 100-pin LQFP, -40ºC to 125ºC; Note: The HET[28] signal is only connected to the pad, not to a package pin.; Published: 30-Mar-2007; DatasheetVersion: Sep-2006; PackageVersion: Dec-1996; PackageReference: PZ100; Publisher: Altium Limited; PackageDescription: 100-Pin Thin Quad Flat Pack 0.5 mm Pitch; ComponentLink1Description: Manufacturer Link; ComponentLink1URL: http://www.ti.com/; ComponentLink2Description: Datasheet; ComponentLink2URL: http://focus.ti.com/lit/ds/symlink/tms470r1vf336a.pdf
footprint PZ100_N (Thin QFP, 100-Leads, Body 14x14mm, Pitch 0.5mm, IPC Medium Density)
footprint PZ100_L (Thin QFP, 100-Leads, Body 14x14mm, Pitch 0.5mm, IPC High Density)
footprint PZ100_M (Thin QFP, 100-Leads, Body 14x14mm, Pitch 0.5mm, IPC Low Density)
part A pins: 22 GIOA[7]/INT7 (io), 23 GIOA[6]/INT6 (io), 24 GIOA[5]/INT5 (io), 25 GIOA[4]/INT4 (io), 28 GIOA[0]/INT0 (in), 29 GIOA[1]/INT1/ECLK (io)
part B pins: 13 HET[17] (io), 14 HET[16] (io), 15 HET[15] (io), 16 HET[14] (io), 17 HET[13] (io), 18 HET[12] (io), 19 HET[11] (io), 20 HET[10] (io), 32 HET[29] (io), 33 HET[30] (io), 34 HET[31] (io), 35 HET[24] (io), 45 HET[22] (io), 46 HET[21] (io), 47 HET[20] (io), 48 HET[19] (io), 49 HET[18] (io), 55 HET[8] (io), 56 HET[9] (io), 68 ADIN[7] (in), 69 ADIN[6] (in), 70 ADIN[5] (in), 71 ADIN[4] (in), 72 ADIN[3] (in), 73 ADIN[2] (in), 74 ADIN[1] (in), 75 ADIN[0] (in), 76 ADIN[11] (in), 77 ADIN[10] (in), 78 ADIN[9] (in), 79 ADIN[8] (in), 88 HET[0] (io), 89 HET[1] (io), 95 HET[2] (io), 96 HET[3] (io), 97 HET[4] (io), 98 HET[5] (io), 99 HET[6] (io), 100 HET[7] (io)
part C pins: 1 ~{SPI1ENA} (io), 2 ~{SPI1SCS} (io), 3 SPI1SIMO (io), 4 SPI1SOMI (io), 5 SPI1CLK (io), 7 OSCOUT (out), 8 OSCIN (in), 10 ~{RST} (io), 21 ~{PORRST} (in), 27 TEST (in), 30 SCI2RX (io), 31 SCI2TX (io), 36 C2SIaLPN (io), 37 C2SIaTX (io), 38 C2SIaRX (io), 41 SPI2CLK (io), 42 SPI2SIMO (io), 43 SPI2SOMI (io), 44 ~{SPI2ENA} (io), 50 AWD (io), 51 PLLDIS (in), 59 CLKOUT (io), 60 CANSRX (io), 61 CANSTX (io), 62 SCI1CLK (io), 63 SCI1TX (io), 64 SCI1RX (io), 67 ADEVT (io), 80 ADREFHI (in), 81 ADREFLO (in), 92 FLTP2, 93 FLTP1
part D pins: 26 ~{TRST} (in), 52 TDI (in), 53 TDO (out), 54 TCK (in), 84 TMS (in), 85 TMS2 (in)
part E pins: 6 VSS (power), 9 VCC (power), 11 VSSIO (power), 12 VCCIO (power), 39 VSS (power), 40 VCC (power), 57 VSSIO (power), 58 VCCIO (power), 65 VSS (power), 66 VCC (power), 82 VCCAD (power), 83 VSSAD (power), 86 VSS (power), 87 VCC (power), 90 VSS (power), 91 VCC (power), 94 VCCP (power)